# Altium schematic symbol library CPLD_Altera.SchLib: 26 symbols (part 1 of 2)
Pins are listed as number, name and electrical type; pins without a type are passive.

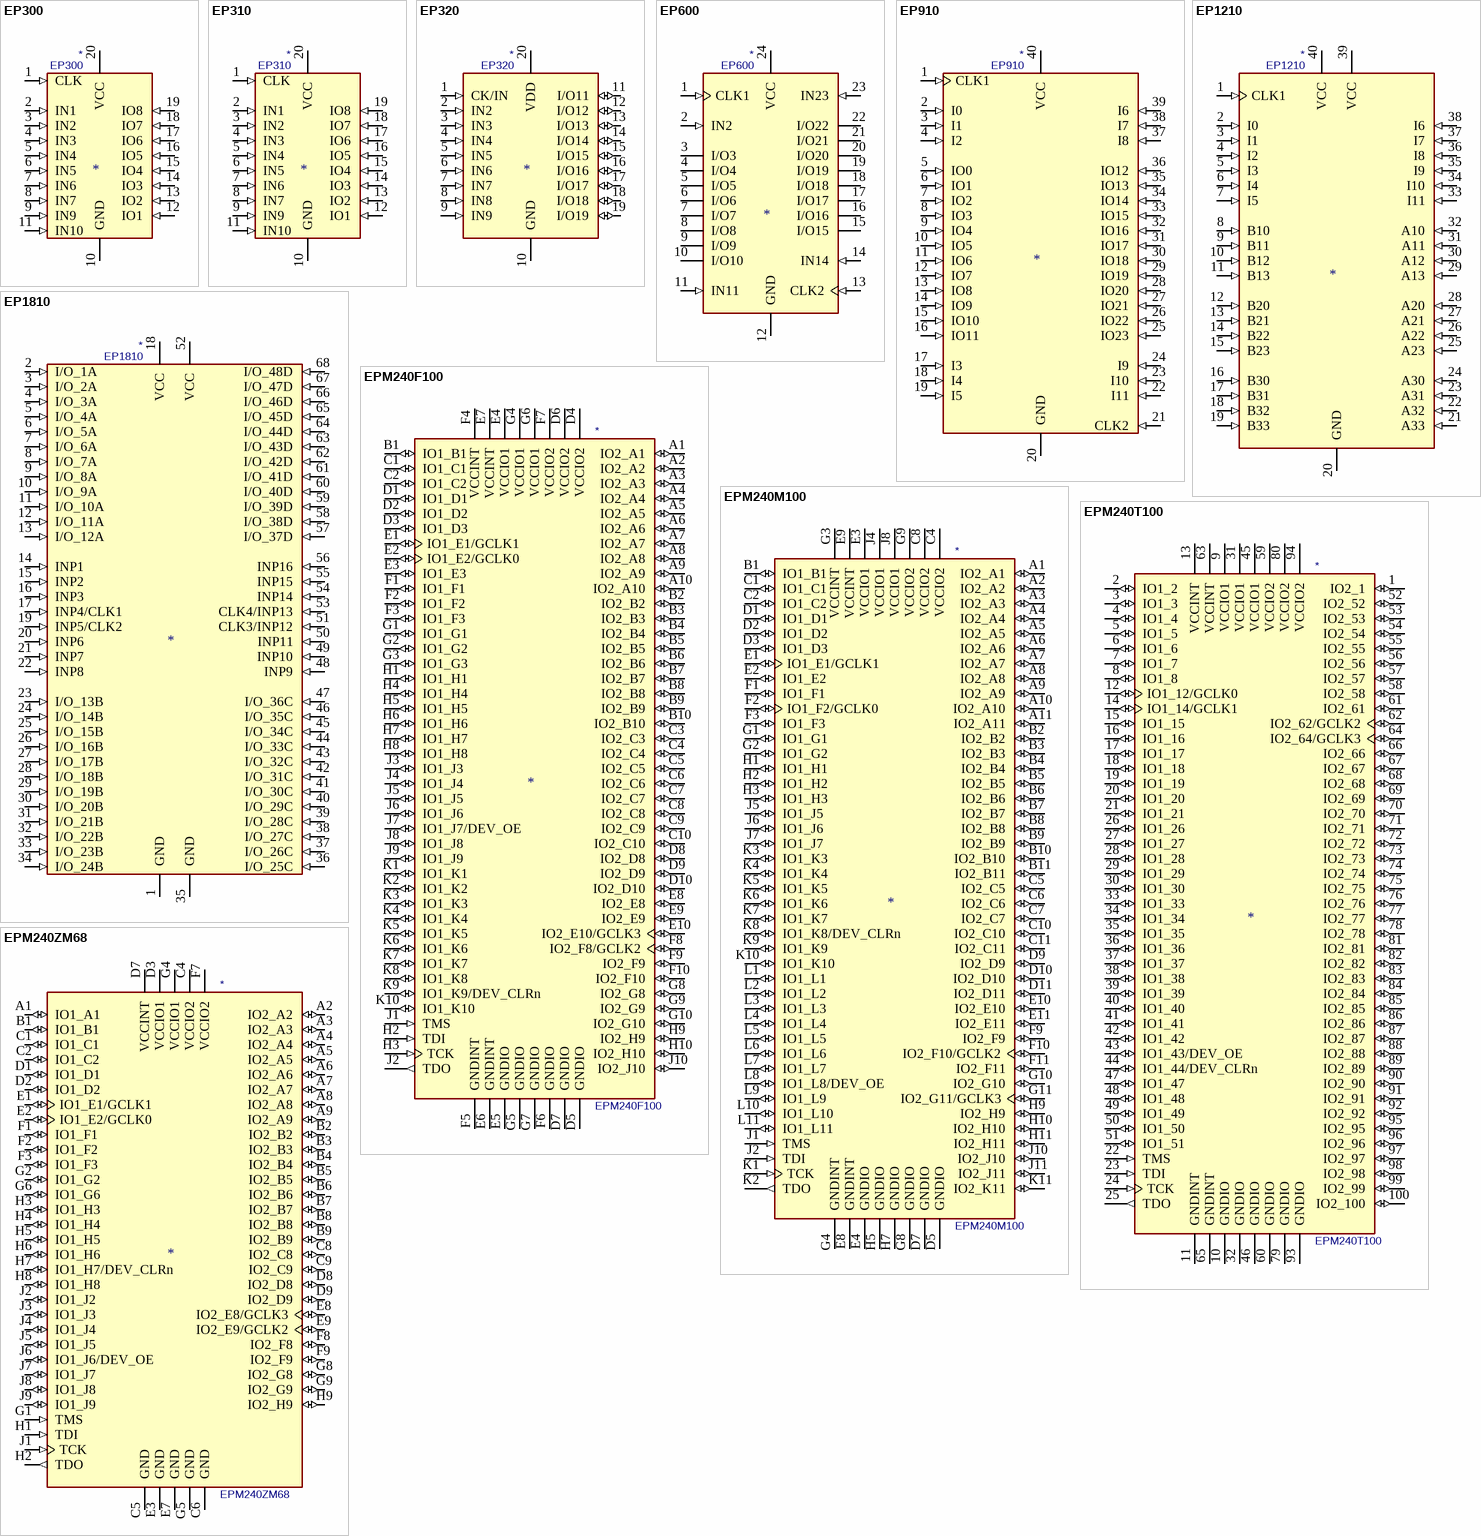
[diagram p0: symbols EP300 to EPM240ZM68]

## EP300
designator *  value EP300
ki_keywords: EPLD; ki_description: EPLD, DIP-20; ki_fp_filters: DIP*W7.62mm*; Footprint: Package_DIP:DIP-20_W7.62mm; Supplier: ~
footprint DIP-20_W7.62mm
pins: 1 CLK (in), 2 IN1 (in), 3 IN2 (in), 4 IN3 (in), 5 IN4 (in), 6 IN5 (in), 7 IN6 (in), 8 IN7 (in), 9 IN9 (in), 10 GND (power), 11 IN10 (in), 12 IO1 (in), 13 IO2 (in), 14 IO3 (in), 15 IO4 (in), 16 IO5 (in), 17 IO6 (in), 18 IO7 (in), 19 IO8 (in), 20 VCC (power)

## EP310
designator *  value EP310
ki_keywords: EPLD; ki_description: EPLD, 8 Macrocell, DIP-20; ki_fp_filters: DIP*W7.62mm*; Footprint: Package_DIP:DIP-20_W7.62mm; Supplier: https://www.usbid.com/assets/datasheets/A6/ep310%20-%20epld%20-%20altera.pdf
footprint DIP-20_W7.62mm
pins: 1 CLK (in), 2 IN1 (in), 3 IN2 (in), 4 IN3 (in), 5 IN4 (in), 6 IN5 (in), 7 IN6 (in), 8 IN7 (in), 9 IN9 (in), 10 GND (power), 11 IN10 (in), 12 IO1 (in), 13 IO2 (in), 14 IO3 (in), 15 IO4 (in), 16 IO5 (in), 17 IO6 (in), 18 IO7 (in), 19 IO8 (in), 20 VCC (power)

## EP320
designator *  value EP320
ki_keywords: EPLD; Supplier: ~; ki_description: EPLD
pins: 1 CK/IN (in), 2 IN2 (in), 3 IN3 (in), 4 IN4 (in), 5 IN5 (in), 6 IN6 (in), 7 IN7 (in), 8 IN8 (in), 9 IN9 (in), 10 GND (power), 11 I/O11 (io), 12 I/O12 (io), 13 I/O13 (io), 14 I/O14 (io), 15 I/O15 (io), 16 I/O16 (io), 17 I/O17 (io), 18 I/O18 (io), 19 I/O19 (io), 20 VDD (power)

## EP600
designator *  value EP600
ki_keywords: EPLD; Supplier: ~; ki_description: EPLD
pins: 1 CLK1 (in), 2 IN2 (in), 3 I/O3, 4 I/O4, 5 I/O5, 6 I/O6, 7 I/O7, 8 I/O8, 9 I/O9, 10 I/O10, 11 IN11 (in), 12 GND (power), 13 CLK2 (in), 14 IN14 (in), 15 I/O15, 16 I/O16, 17 I/O17, 18 I/O18, 19 I/O19, 20 I/O20, 21 I/O21, 22 I/O22, 23 IN23 (in), 24 VCC (power)

## EP910
designator *  value EP910
ki_keywords: EPLD; Supplier: ~; ki_description: EPLD
pins: 1 CLK1 (in), 2 I0 (in), 3 I1 (in), 4 I2 (in), 5 IO0 (in), 6 IO1 (in), 7 IO2 (in), 8 IO3 (in), 9 IO4 (in), 10 IO5 (in), 11 IO6 (in), 12 IO7 (in), 13 IO8 (in), 14 IO9 (in), 15 IO10 (in), 16 IO11 (in), 17 I3 (in), 18 I4 (in), 19 I5 (in), 20 GND (power), 21 CLK2 (in), 22 I11 (in), 23 I10 (in), 24 I9 (in), 25 IO23 (in), 26 IO22 (in), 27 IO21 (in), 28 IO20 (in), 29 IO19 (in), 30 IO18 (in), 31 IO17 (in), 32 IO16 (in), 33 IO15 (in), 34 IO14 (in), 35 IO13 (in), 36 IO12 (in), 37 I8 (in), 38 I7 (in), 39 I6 (in), 40 VCC (power)

## EP1210
designator *  value EP1210
ki_keywords: EPLD; Supplier: ~; ki_description: EPLD
pins: 1 CLK1 (in), 2 I0 (in), 3 I1 (in), 4 I2 (in), 5 I3 (in), 6 I4 (in), 7 I5 (in), 8 B10 (in), 9 B11 (in), 10 B12 (in), 11 B13 (in), 12 B20 (in), 13 B21 (in), 14 B22 (in), 15 B23 (in), 16 B30 (in), 17 B31 (in), 18 B32 (in), 19 B33 (in), 20 GND (power), 21 A33 (in), 22 A32 (in), 23 A31 (in), 24 A30 (in), 25 A23 (in), 26 A22 (in), 27 A21 (in), 28 A20 (in), 29 A13 (in), 30 A12 (in), 31 A11 (in), 32 A10 (in), 33 I11 (in), 34 I10 (in), 35 I9 (in), 36 I8 (in), 37 I7 (in), 38 I6 (in), 39 VCC (power), 40 VCC (power)

## EP1810
designator *  value EP1810
ki_keywords: EPLD; Supplier: ~; ki_description: EPLD
pins: 1 GND (power), 2 I/O_1A (in), 3 I/O_2A (in), 4 I/O_3A (in), 5 I/O_4A (in), 6 I/O_5A (in), 7 I/O_6A (in), 8 I/O_7A (in), 9 I/O_8A (in), 10 I/O_9A (in), 11 I/O_10A (in), 12 I/O_11A (in), 13 I/O_12A (in), 14 INP1 (in), 15 INP2 (in), 16 INP3 (in), 17 INP4/CLK1 (in), 18 VCC (power), 19 INP5/CLK2 (in), 20 INP6 (in), 21 INP7 (in), 22 INP8 (in), 23 I/O_13B (in), 24 I/O_14B (in), 25 I/O_15B (in), 26 I/O_16B (in), 27 I/O_17B (in), 28 I/O_18B (in), 29 I/O_19B (in), 30 I/O_20B (in), 31 I/O_21B (in), 32 I/O_22B (in), 33 I/O_23B (in), 34 I/O_24B (in), 35 GND (power), 36 I/O_25C (in), 37 I/O_26C (in), 38 I/O_27C (in), 39 I/O_28C (in), 40 I/O_29C (in), 41 I/O_30C (in), 42 I/O_31C (in), 43 I/O_32C (in), 44 I/O_33C (in), 45 I/O_34C (in), 46 I/O_35C (in), 47 I/O_36C (in), 48 INP9 (in), 49 INP10 (in), 50 INP11 (in), 51 CLK3/INP12 (in), 52 VCC (power), 53 CLK4/INP13 (in), 54 INP14 (in), 55 INP15 (in), 56 INP16 (in), 57 I/O_37D (in), 58 I/O_38D (in), 59 I/O_39D (in), 60 I/O_40D (in), 61 I/O_41D (in), 62 I/O_42D (in), 63 I/O_43D (in), 64 I/O_44D (in), 65 I/O_45D (in), 66 I/O_46D (in), 67 I/O_47D (in), 68 I/O_48D (in)

## EPM240F100
designator *  value EPM240F100
ki_keywords: MAX2 FBGA; ki_description: Altera MAX2 CPLD with 240 LE; ki_fp_filters: *BGA*P1.0mm*; Footprint: Package_BGA:BGA-100_11.0x11.0mm_Layout10x10_P1.0mm_Ball0.5mm_Pad0.4mm_NSMD; Supplier: https://www.altera.com/content/dam/altera-www/global/en_US/pdfs/literature/hb/max2/max2_mii5v1.pdf
footprint BGA-100_11.0x11.0mm_Layout10x10_P1.0mm_Ball0.5mm_Pad0.4mm_NSMD
pins: A1 IO2_A1 (io), A2 IO2_A2 (io), A3 IO2_A3 (io), A4 IO2_A4 (io), A5 IO2_A5 (io), A6 IO2_A6 (io), A7 IO2_A7 (io), A8 IO2_A8 (io), A9 IO2_A9 (io), A10 IO2_A10 (io), B1 IO1_B1 (io), B2 IO2_B2 (io), B3 IO2_B3 (io), B4 IO2_B4 (io), B5 IO2_B5 (io), B6 IO2_B6 (io), B7 IO2_B7 (io), B8 IO2_B8 (io), B9 IO2_B9 (io), B10 IO2_B10 (io), C1 IO1_C1 (io), C2 IO1_C2 (io), C3 IO2_C3 (io), C4 IO2_C4 (io), C5 IO2_C5 (io), C6 IO2_C6 (io), C7 IO2_C7 (io), C8 IO2_C8 (io), C9 IO2_C9 (io), C10 IO2_C10 (io), D1 IO1_D1 (io), D2 IO1_D2 (io), D3 IO1_D3 (io), D4 VCCIO2 (power), D5 GNDIO (power), D6 VCCIO2 (power), D7 GNDIO (power), D8 IO2_D8 (io), D9 IO2_D9 (io), D10 IO2_D10 (io), E1 IO1_E1/GCLK1 (io), E2 IO1_E2/GCLK0 (io), E3 IO1_E3 (io), E4 VCCIO1 (power), E5 GNDIO (power), E6 GNDINT (power), E7 VCCINT (power), E8 IO2_E8 (io), E9 IO2_E9 (io), E10 IO2_E10/GCLK3 (io), F1 IO1_F1 (io), F2 IO1_F2 (io), F3 IO1_F3 (io), F4 VCCINT (power), F5 GNDINT (power), F6 GNDIO (power), F7 VCCIO2 (power), F8 IO2_F8/GCLK2 (io), F9 IO2_F9 (io), F10 IO2_F10 (io), G1 IO1_G1 (io), G2 IO1_G2 (io), G3 IO1_G3 (io), G4 VCCIO1 (power), G5 GNDIO (power), G6 VCCIO1 (power), G7 GNDIO (power), G8 IO2_G8 (io), G9 IO2_G9 (io), G10 IO2_G10 (io), H1 IO1_H1 (io), H2 TDI (in), H3 TCK (in), H4 IO1_H4 (io), H5 IO1_H5 (io), H6 IO1_H6 (io), H7 IO1_H7 (io), H8 IO1_H8 (io), H9 IO2_H9 (io), H10 IO2_H10 (io), J1 TMS (in), J2 TDO (out), J3 IO1_J3 (io), J4 IO1_J4 (io), J5 IO1_J5 (io), J6 IO1_J6 (io), J7 IO1_J7/DEV_OE (io), J8 IO1_J8 (io), J9 IO1_J9 (io), J10 IO2_J10 (io), K1 IO1_K1 (io), K2 IO1_K2 (io), K3 IO1_K3 (io), K4 IO1_K4 (io), K5 IO1_K5 (io), K6 IO1_K6 (io), K7 IO1_K7 (io), K8 IO1_K8 (io), K9 IO1_K9/DEV_CLRn (io), K10 IO1_K10 (io)

## EPM240M100
designator *  value EPM240M100
ki_keywords: MAX2 MBGA; ki_description: Altera MAX2 CPLD with 240 LE; ki_fp_filters: *BGA*P0.5mm*; Footprint: Package_BGA:BGA-100_6.0x6.0mm_Layout11x11_P0.5mm_Ball0.3mm_Pad0.25mm_NSMD; Supplier: https://www.altera.com/content/dam/altera-www/global/en_US/pdfs/literature/hb/max2/max2_mii5v1.pdf
footprint BGA-100_6.0x6.0mm_Layout11x11_P0.5mm_Ball0.3mm_Pad0.25mm_NSMD
pins: A1 IO2_A1 (io), A2 IO2_A2 (io), A3 IO2_A3 (io), A4 IO2_A4 (io), A5 IO2_A5 (io), A6 IO2_A6 (io), A7 IO2_A7 (io), A8 IO2_A8 (io), A9 IO2_A9 (io), A10 IO2_A10 (io), A11 IO2_A11 (io), B1 IO1_B1 (io), B2 IO2_B2 (io), B3 IO2_B3 (io), B4 IO2_B4 (io), B5 IO2_B5 (io), B6 IO2_B6 (io), B7 IO2_B7 (io), B8 IO2_B8 (io), B9 IO2_B9 (io), B10 IO2_B10 (io), B11 IO2_B11 (io), C1 IO1_C1 (io), C2 IO1_C2 (io), C4 VCCIO2 (power), C5 IO2_C5 (io), C6 IO2_C6 (io), C7 IO2_C7 (io), C8 VCCIO2 (power), C10 IO2_C10 (io), C11 IO2_C11 (io), D1 IO1_D1 (io), D2 IO1_D2 (io), D3 IO1_D3 (io), D5 GNDIO (power), D7 GNDIO (power), D9 IO2_D9 (io), D10 IO2_D10 (io), D11 IO2_D11 (io), E1 IO1_E1/GCLK1 (io), E2 IO1_E2 (io), E3 VCCIO1 (power), E4 GNDIO (power), E8 GNDINT (power), E9 VCCINT (power), E10 IO2_E10 (io), E11 IO2_E11 (io), F1 IO1_F1 (io), F2 IO1_F2/GCLK0 (io), F3 IO1_F3 (io), F9 IO2_F9 (io), F10 IO2_F10/GCLK2 (io), F11 IO2_F11 (io), G1 IO1_G1 (io), G2 IO1_G2 (io), G3 VCCINT (power), G4 GNDINT (power), G8 GNDIO (power), G9 VCCIO2 (power), G10 IO2_G10 (io), G11 IO2_G11/GCLK3 (io), H1 IO1_H1 (io), H2 IO1_H2 (io), H3 IO1_H3 (io), H5 GNDIO (power), H7 GNDIO (power), H9 IO2_H9 (io), H10 IO2_H10 (io), H11 IO2_H11 (io), J1 TMS (in), J2 TDI (in), J4 VCCIO1 (power), J5 IO1_J5 (io), J6 IO1_J6 (io), J7 IO1_J7 (io), J8 VCCIO1 (power), J10 IO2_J10 (io), J11 IO2_J11 (io), K1 TCK (in), K2 TDO (out), K3 IO1_K3 (io), K4 IO1_K4 (io), K5 IO1_K5 (io), K6 IO1_K6 (io), K7 IO1_K7 (io), K8 IO1_K8/DEV_CLRn (io), K9 IO1_K9 (io), K10 IO1_K10 (io), K11 IO2_K11 (io), L1 IO1_L1 (io), L2 IO1_L2 (io), L3 IO1_L3 (io), L4 IO1_L4 (io), L5 IO1_L5 (io), L6 IO1_L6 (io), L7 IO1_L7 (io), L8 IO1_L8/DEV_OE (io), L9 IO1_L9 (io), L10 IO1_L10 (io), L11 IO1_L11 (io)

## EPM240T100
designator *  value EPM240T100
ki_keywords: MAX2 TQFP; ki_description: Altera MAX2 CPLD with 240 LE; ki_fp_filters: *QFP*P0.5mm*; Footprint: Package_QFP:LQFP-100_14x14mm_P0.5mm; Supplier: https://www.altera.com/content/dam/altera-www/global/en_US/pdfs/literature/hb/max2/max2_mii5v1.pdf
footprint LQFP-100_14x14mm_P0.5mm
pins: 1 IO2_1 (io), 2 IO1_2 (io), 3 IO1_3 (io), 4 IO1_4 (io), 5 IO1_5 (io), 6 IO1_6 (io), 7 IO1_7 (io), 8 IO1_8 (io), 9 VCCIO1 (power), 10 GNDIO (power), 11 GNDINT (power), 12 IO1_12/GCLK0 (io), 13 VCCINT (power), 14 IO1_14/GCLK1 (io), 15 IO1_15 (io), 16 IO1_16 (io), 17 IO1_17 (io), 18 IO1_18 (io), 19 IO1_19 (io), 20 IO1_20 (io), 21 IO1_21 (io), 22 TMS (in), 23 TDI (in), 24 TCK (in), 25 TDO (out), 26 IO1_26 (io), 27 IO1_27 (io), 28 IO1_28 (io), 29 IO1_29 (io), 30 IO1_30 (io), 31 VCCIO1 (power), 32 GNDIO (power), 33 IO1_33 (io), 34 IO1_34 (io), 35 IO1_35 (io), 36 IO1_36 (io), 37 IO1_37 (io), 38 IO1_38 (io), 39 IO1_39 (io), 40 IO1_40 (io), 41 IO1_41 (io), 42 IO1_42 (io), 43 IO1_43/DEV_OE (io), 44 IO1_44/DEV_CLRn (io), 45 VCCIO1 (power), 46 GNDIO (power), 47 IO1_47 (io), 48 IO1_48 (io), 49 IO1_49 (io), 50 IO1_50 (io), 51 IO1_51 (io), 52 IO2_52 (io), 53 IO2_53 (io), 54 IO2_54 (io), 55 IO2_55 (io), 56 IO2_56 (io), 57 IO2_57 (io), 58 IO2_58 (io), 59 VCCIO2 (power), 60 GNDIO (power), 61 IO2_61 (io), 62 IO2_62/GCLK2 (io), 63 VCCINT (power), 64 IO2_64/GCLK3 (io), 65 GNDINT (power), 66 IO2_66 (io), 67 IO2_67 (io), 68 IO2_68 (io), 69 IO2_69 (io), 70 IO2_70 (io), 71 IO2_71 (io), 72 IO2_72 (io), 73 IO2_73 (io), 74 IO2_74 (io), 75 IO2_75 (io), 76 IO2_76 (io), 77 IO2_77 (io), 78 IO2_78 (io), 79 GNDIO (power), 80 VCCIO2 (power), 81 IO2_81 (io), 82 IO2_82 (io), 83 IO2_83 (io), 84 IO2_84 (io), 85 IO2_85 (io), 86 IO2_86 (io), 87 IO2_87 (io), 88 IO2_88 (io), 89 IO2_89 (io), 90 IO2_90 (io), 91 IO2_91 (io), 92 IO2_92 (io), 93 GNDIO (power), 94 VCCIO2 (power), 95 IO2_95 (io), 96 IO2_96 (io), 97 IO2_97 (io), 98 IO2_98 (io), 99 IO2_99 (io), 100 IO2_100 (io)

## EPM240ZM68
designator *  value EPM240ZM68
ki_keywords: MAX2 MBGA; ki_description: Altera Zero-Power MAX2 CPLD with 240 LE; ki_fp_filters: *BGA*P0.5mm*; Footprint: Package_BGA:BGA-68_5.0x5.0mm_Layout9x9_P0.5mm_Ball0.3mm_Pad0.25mm_NSMD; Supplier: https://www.altera.com/content/dam/altera-www/global/en_US/pdfs/literature/hb/max2/max2_mii5v1.pdf
footprint BGA-68_5.0x5.0mm_Layout9x9_P0.5mm_Ball0.3mm_Pad0.25mm_NSMD
pins: A1 IO1_A1 (io), A2 IO2_A2 (io), A3 IO2_A3 (io), A4 IO2_A4 (io), A5 IO2_A5 (io), A6 IO2_A6 (io), A7 IO2_A7 (io), A8 IO2_A8 (io), A9 IO2_A9 (io), B1 IO1_B1 (io), B2 IO2_B2 (io), B3 IO2_B3 (io), B4 IO2_B4 (io), B5 IO2_B5 (io), B6 IO2_B6 (io), B7 IO2_B7 (io), B8 IO2_B8 (io), B9 IO2_B9 (io), C1 IO1_C1 (io), C2 IO1_C2 (io), C4 VCCIO2 (power), C5 GND (power), C6 GND (power), C8 IO2_C8 (io), C9 IO2_C9 (io), D1 IO1_D1 (io), D2 IO1_D2 (io), D3 VCCIO1 (power), D7 VCCINT (power), D8 IO2_D8 (io), D9 IO2_D9 (io), E1 IO1_E1/GCLK1 (io), E2 IO1_E2/GCLK0 (io), E3 GND (power), E7 GND (power), E8 IO2_E8/GCLK3 (io), E9 IO2_E9/GCLK2 (io), F1 IO1_F1 (io), F2 IO1_F2 (io), F3 IO1_F3 (io), F7 VCCIO2 (power), F8 IO2_F8 (io), F9 IO2_F9 (io), G1 TMS (in), G2 IO1_G2 (io), G4 VCCIO1 (power), G5 GND (power), G6 IO1_G6 (io), G8 IO2_G8 (io), G9 IO2_G9 (io), H1 TDI (in), H2 TDO (out), H3 IO1_H3 (io), H4 IO1_H4 (io), H5 IO1_H5 (io), H6 IO1_H6 (io), H7 IO1_H7/DEV_CLRn (io), H8 IO1_H8 (io), H9 IO2_H9 (io), J1 TCK (in), J2 IO1_J2 (io), J3 IO1_J3 (io), J4 IO1_J4 (io), J5 IO1_J5 (io), J6 IO1_J6/DEV_OE (io), J7 IO1_J7 (io), J8 IO1_J8 (io), J9 IO1_J9 (io)

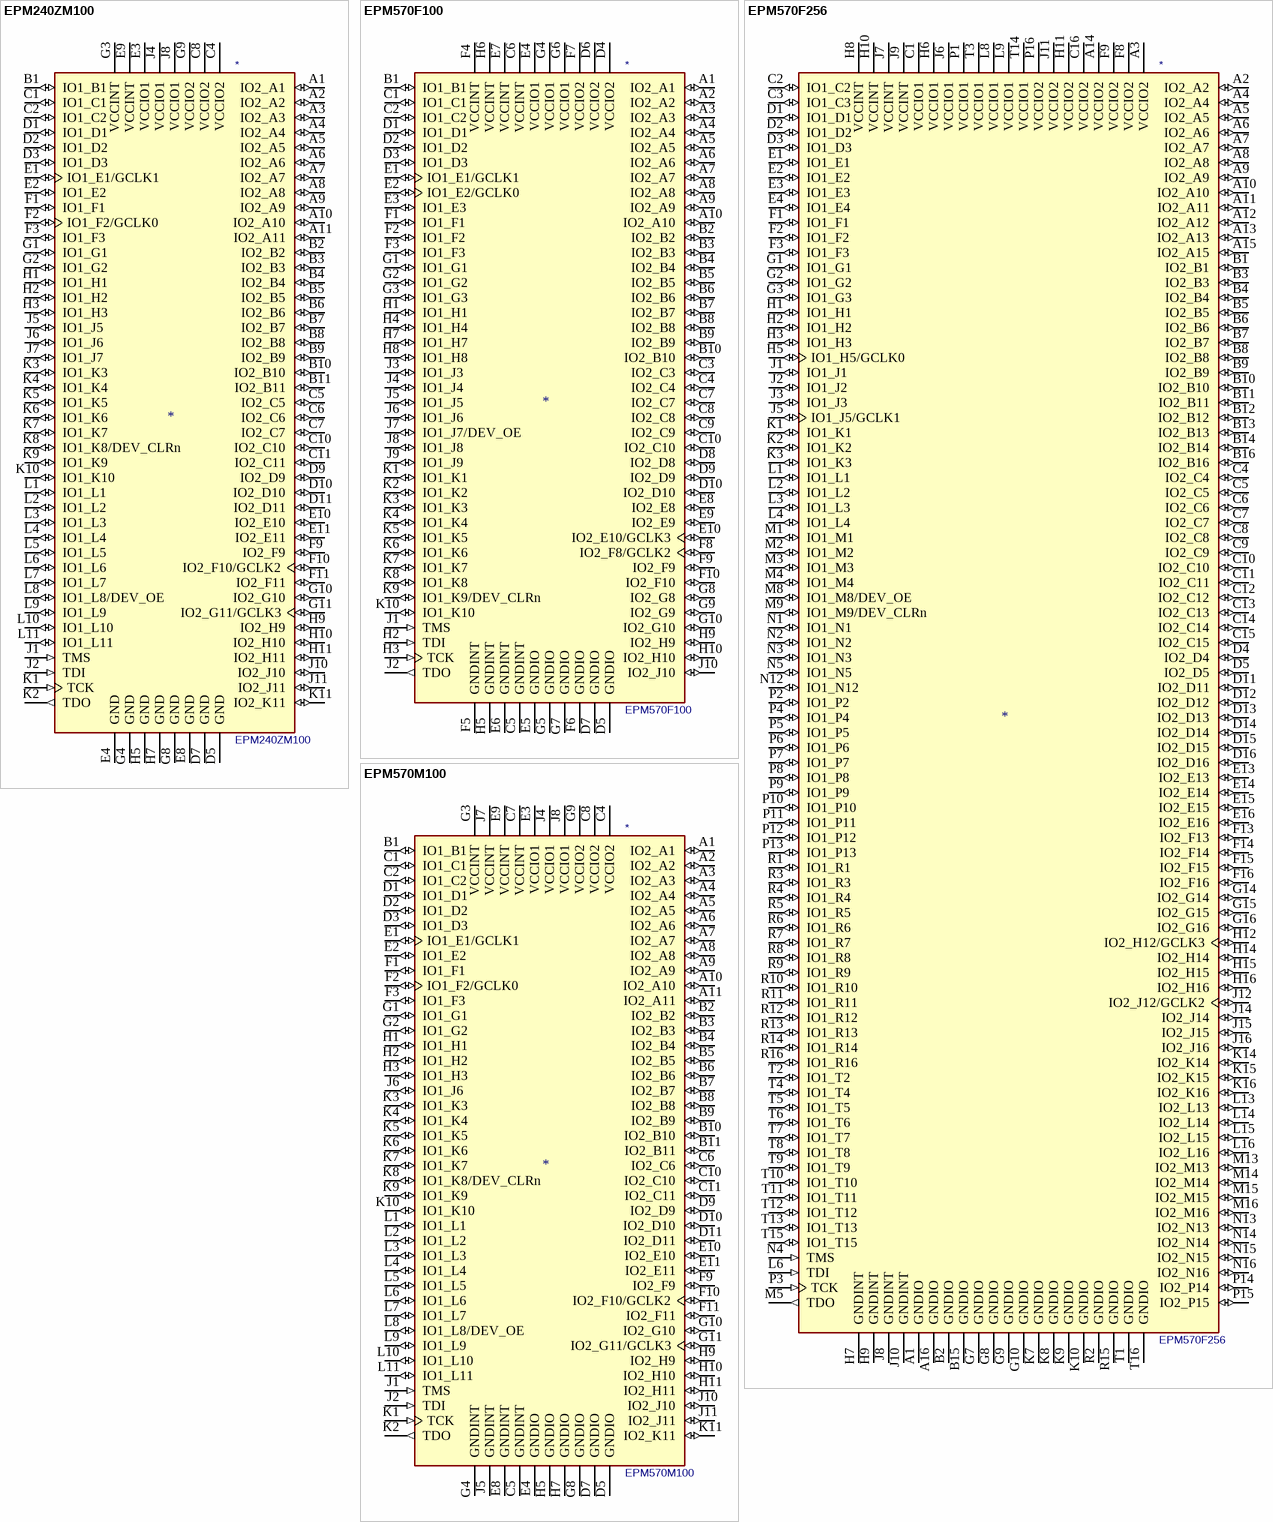
[diagram p1: symbols EPM240ZM100 to EPM570M100]

## EPM240ZM100
designator *  value EPM240ZM100
ki_keywords: MAX2 MBGA; ki_description: Altera Zero-Power MAX2 CPLD with 240 LE; ki_fp_filters: *BGA*P0.5mm*; Footprint: Package_BGA:BGA-100_6.0x6.0mm_Layout11x11_P0.5mm_Ball0.3mm_Pad0.25mm_NSMD; Supplier: https://www.altera.com/content/dam/altera-www/global/en_US/pdfs/literature/hb/max2/max2_mii5v1.pdf
footprint BGA-100_6.0x6.0mm_Layout11x11_P0.5mm_Ball0.3mm_Pad0.25mm_NSMD
pins: A1 IO2_A1 (io), A2 IO2_A2 (io), A3 IO2_A3 (io), A4 IO2_A4 (io), A5 IO2_A5 (io), A6 IO2_A6 (io), A7 IO2_A7 (io), A8 IO2_A8 (io), A9 IO2_A9 (io), A10 IO2_A10 (io), A11 IO2_A11 (io), B1 IO1_B1 (io), B2 IO2_B2 (io), B3 IO2_B3 (io), B4 IO2_B4 (io), B5 IO2_B5 (io), B6 IO2_B6 (io), B7 IO2_B7 (io), B8 IO2_B8 (io), B9 IO2_B9 (io), B10 IO2_B10 (io), B11 IO2_B11 (io), C1 IO1_C1 (io), C2 IO1_C2 (io), C4 VCCIO2 (power), C5 IO2_C5 (io), C6 IO2_C6 (io), C7 IO2_C7 (io), C8 VCCIO2 (power), C10 IO2_C10 (io), C11 IO2_C11 (io), D1 IO1_D1 (io), D2 IO1_D2 (io), D3 IO1_D3 (io), D5 GND (power), D7 GND (power), D9 IO2_D9 (io), D10 IO2_D10 (io), D11 IO2_D11 (io), E1 IO1_E1/GCLK1 (io), E2 IO1_E2 (io), E3 VCCIO1 (power), E4 GND (power), E8 GND (power), E9 VCCINT (power), E10 IO2_E10 (io), E11 IO2_E11 (io), F1 IO1_F1 (io), F2 IO1_F2/GCLK0 (io), F3 IO1_F3 (io), F9 IO2_F9 (io), F10 IO2_F10/GCLK2 (io), F11 IO2_F11 (io), G1 IO1_G1 (io), G2 IO1_G2 (io), G3 VCCINT (power), G4 GND (power), G8 GND (power), G9 VCCIO2 (power), G10 IO2_G10 (io), G11 IO2_G11/GCLK3 (io), H1 IO1_H1 (io), H2 IO1_H2 (io), H3 IO1_H3 (io), H5 GND (power), H7 GND (power), H9 IO2_H9 (io), H10 IO2_H10 (io), H11 IO2_H11 (io), J1 TMS (in), J2 TDI (in), J4 VCCIO1 (power), J5 IO1_J5 (io), J6 IO1_J6 (io), J7 IO1_J7 (io), J8 VCCIO1 (power), J10 IO2_J10 (io), J11 IO2_J11 (io), K1 TCK (in), K2 TDO (out), K3 IO1_K3 (io), K4 IO1_K4 (io), K5 IO1_K5 (io), K6 IO1_K6 (io), K7 IO1_K7 (io), K8 IO1_K8/DEV_CLRn (io), K9 IO1_K9 (io), K10 IO1_K10 (io), K11 IO2_K11 (io), L1 IO1_L1 (io), L2 IO1_L2 (io), L3 IO1_L3 (io), L4 IO1_L4 (io), L5 IO1_L5 (io), L6 IO1_L6 (io), L7 IO1_L7 (io), L8 IO1_L8/DEV_OE (io), L9 IO1_L9 (io), L10 IO1_L10 (io), L11 IO1_L11 (io)

## EPM570F100
designator *  value EPM570F100
ki_keywords: MAX2 FBGA; ki_description: Altera MAX2 CPLD with 570 LE; ki_fp_filters: *BGA*P1.0mm*; Footprint: Package_BGA:BGA-100_11.0x11.0mm_Layout10x10_P1.0mm_Ball0.5mm_Pad0.4mm_NSMD; Supplier: https://www.altera.com/content/dam/altera-www/global/en_US/pdfs/literature/hb/max2/max2_mii5v1.pdf
footprint BGA-100_11.0x11.0mm_Layout10x10_P1.0mm_Ball0.5mm_Pad0.4mm_NSMD
pins: A1 IO2_A1 (io), A2 IO2_A2 (io), A3 IO2_A3 (io), A4 IO2_A4 (io), A5 IO2_A5 (io), A6 IO2_A6 (io), A7 IO2_A7 (io), A8 IO2_A8 (io), A9 IO2_A9 (io), A10 IO2_A10 (io), B1 IO1_B1 (io), B2 IO2_B2 (io), B3 IO2_B3 (io), B4 IO2_B4 (io), B5 IO2_B5 (io), B6 IO2_B6 (io), B7 IO2_B7 (io), B8 IO2_B8 (io), B9 IO2_B9 (io), B10 IO2_B10 (io), C1 IO1_C1 (io), C2 IO1_C2 (io), C3 IO2_C3 (io), C4 IO2_C4 (io), C5 GNDINT (power), C6 VCCINT (power), C7 IO2_C7 (io), C8 IO2_C8 (io), C9 IO2_C9 (io), C10 IO2_C10 (io), D1 IO1_D1 (io), D2 IO1_D2 (io), D3 IO1_D3 (io), D4 VCCIO2 (power), D5 GNDIO (power), D6 VCCIO2 (power), D7 GNDIO (power), D8 IO2_D8 (io), D9 IO2_D9 (io), D10 IO2_D10 (io), E1 IO1_E1/GCLK1 (io), E2 IO1_E2/GCLK0 (io), E3 IO1_E3 (io), E4 VCCIO1 (power), E5 GNDIO (power), E6 GNDINT (power), E7 VCCINT (power), E8 IO2_E8 (io), E9 IO2_E9 (io), E10 IO2_E10/GCLK3 (io), F1 IO1_F1 (io), F2 IO1_F2 (io), F3 IO1_F3 (io), F4 VCCINT (power), F5 GNDINT (power), F6 GNDIO (power), F7 VCCIO2 (power), F8 IO2_F8/GCLK2 (io), F9 IO2_F9 (io), F10 IO2_F10 (io), G1 IO1_G1 (io), G2 IO1_G2 (io), G3 IO1_G3 (io), G4 VCCIO1 (power), G5 GNDIO (power), G6 VCCIO1 (power), G7 GNDIO (power), G8 IO2_G8 (io), G9 IO2_G9 (io), G10 IO2_G10 (io), H1 IO1_H1 (io), H2 TDI (in), H3 TCK (in), H4 IO1_H4 (io), H5 GNDINT (power), H6 VCCINT (power), H7 IO1_H7 (io), H8 IO1_H8 (io), H9 IO2_H9 (io), H10 IO2_H10 (io), J1 TMS (in), J2 TDO (out), J3 IO1_J3 (io), J4 IO1_J4 (io), J5 IO1_J5 (io), J6 IO1_J6 (io), J7 IO1_J7/DEV_OE (io), J8 IO1_J8 (io), J9 IO1_J9 (io), J10 IO2_J10 (io), K1 IO1_K1 (io), K2 IO1_K2 (io), K3 IO1_K3 (io), K4 IO1_K4 (io), K5 IO1_K5 (io), K6 IO1_K6 (io), K7 IO1_K7 (io), K8 IO1_K8 (io), K9 IO1_K9/DEV_CLRn (io), K10 IO1_K10 (io)

## EPM570F256
designator *  value EPM570F256
ki_keywords: MAX2 FBGA; ki_description: Altera MAX2 CPLD with 570 LE; ki_fp_filters: *BGA*P1.0mm*; Footprint: Package_BGA:BGA-256_17.0x17.0mm_Layout16x16_P1.0mm_Ball0.5mm_Pad0.4mm_NSMD; Supplier: https://www.altera.com/content/dam/altera-www/global/en_US/pdfs/literature/hb/max2/max2_mii5v1.pdf
footprint BGA-256_17.0x17.0mm_Layout16x16_P1.0mm_Ball0.5mm_Pad0.4mm_NSMD
pins: A1 GNDIO (power), A2 IO2_A2 (io), A3 VCCIO2 (power), A4 IO2_A4 (io), A5 IO2_A5 (io), A6 IO2_A6 (io), A7 IO2_A7 (io), A8 IO2_A8 (io), A9 IO2_A9 (io), A10 IO2_A10 (io), A11 IO2_A11 (io), A12 IO2_A12 (io), A13 IO2_A13 (io), A14 VCCIO2 (power), A15 IO2_A15 (io), A16 GNDIO (power), B1 IO2_B1 (io), B2 GNDIO (power), B3 IO2_B3 (io), B4 IO2_B4 (io), B5 IO2_B5 (io), B6 IO2_B6 (io), B7 IO2_B7 (io), B8 IO2_B8 (io), B9 IO2_B9 (io), B10 IO2_B10 (io), B11 IO2_B11 (io), B12 IO2_B12 (io), B13 IO2_B13 (io), B14 IO2_B14 (io), B15 GNDIO (power), B16 IO2_B16 (io), C1 VCCIO1 (power), C2 IO1_C2 (io), C3 IO1_C3 (io), C4 IO2_C4 (io), C5 IO2_C5 (io), C6 IO2_C6 (io), C7 IO2_C7 (io), C8 IO2_C8 (io), C9 IO2_C9 (io), C10 IO2_C10 (io), C11 IO2_C11 (io), C12 IO2_C12 (io), C13 IO2_C13 (io), C14 IO2_C14 (io), C15 IO2_C15 (io), C16 VCCIO2 (power), D1 IO1_D1 (io), D2 IO1_D2 (io), D3 IO1_D3 (io), D4 IO2_D4 (io), D5 IO2_D5 (io), D11 IO2_D11 (io), D12 IO2_D12 (io), D13 IO2_D13 (io), D14 IO2_D14 (io), D15 IO2_D15 (io), D16 IO2_D16 (io), E1 IO1_E1 (io), E2 IO1_E2 (io), E3 IO1_E3 (io), E4 IO1_E4 (io), E13 IO2_E13 (io), E14 IO2_E14 (io), E15 IO2_E15 (io), E16 IO2_E16 (io), F1 IO1_F1 (io), F2 IO1_F2 (io), F3 IO1_F3 (io), F8 VCCIO2 (power), F9 VCCIO2 (power), F13 IO2_F13 (io), F14 IO2_F14 (io), F15 IO2_F15 (io), F16 IO2_F16 (io), G1 IO1_G1 (io), G2 IO1_G2 (io), G3 IO1_G3 (io), G7 GNDIO (power), G8 GNDIO (power), G9 GNDIO (power), G10 GNDIO (power), G14 IO2_G14 (io), G15 IO2_G15 (io), G16 IO2_G16 (io), H1 IO1_H1 (io), H2 IO1_H2 (io), H3 IO1_H3 (io), H5 IO1_H5/GCLK0 (io), H6 VCCIO1 (power), H7 GNDINT (power), H8 VCCINT (power), H9 GNDINT (power), H10 VCCINT (power), H11 VCCIO2 (power), H12 IO2_H12/GCLK3 (io), H14 IO2_H14 (io), H15 IO2_H15 (io), H16 IO2_H16 (io), J1 IO1_J1 (io), J2 IO1_J2 (io), J3 IO1_J3 (io), J5 IO1_J5/GCLK1 (io), J6 VCCIO1 (power), J7 VCCINT (power), J8 GNDINT (power), J9 VCCINT (power), J10 GNDINT (power), J11 VCCIO2 (power), J12 IO2_J12/GCLK2 (io), J14 IO2_J14 (io), J15 IO2_J15 (io), J16 IO2_J16 (io), K1 IO1_K1 (io), K2 IO1_K2 (io), K3 IO1_K3 (io), K7 GNDIO (power), K8 GNDIO (power), K9 GNDIO (power), K10 GNDIO (power), K14 IO2_K14 (io), K15 IO2_K15 (io), K16 IO2_K16 (io), L1 IO1_L1 (io), L2 IO1_L2 (io), L3 IO1_L3 (io), L4 IO1_L4 (io), L6 TDI (in), L8 VCCIO1 (power), L9 VCCIO1 (power), L13 IO2_L13 (io), L14 IO2_L14 (io), L15 IO2_L15 (io), L16 IO2_L16 (io), M1 IO1_M1 (io), M2 IO1_M2 (io), M3 IO1_M3 (io), M4 IO1_M4 (io), M5 TDO (out), M8 IO1_M8/DEV_OE (io), M9 IO1_M9/DEV_CLRn (io), M13 IO2_M13 (io), M14 IO2_M14 (io), M15 IO2_M15 (io), M16 IO2_M16 (io), N1 IO1_N1 (io), N2 IO1_N2 (io), N3 IO1_N3 (io), N4 TMS (in), N5 IO1_N5 (io), N12 IO1_N12 (io), N13 IO2_N13 (io), N14 IO2_N14 (io), N15 IO2_N15 (io), N16 IO2_N16 (io), P1 VCCIO1 (power), P2 IO1_P2 (io), P3 TCK (in), P4 IO1_P4 (io), P5 IO1_P5 (io), P6 IO1_P6 (io), P7 IO1_P7 (io), P8 IO1_P8 (io), P9 IO1_P9 (io), P10 IO1_P10 (io), P11 IO1_P11 (io), P12 IO1_P12 (io), P13 IO1_P13 (io), P14 IO2_P14 (io), P15 IO2_P15 (io), P16 VCCIO2 (power), R1 IO1_R1 (io), R2 GNDIO (power), R3 IO1_R3 (io), R4 IO1_R4 (io), R5 IO1_R5 (io), R6 IO1_R6 (io), R7 IO1_R7 (io), R8 IO1_R8 (io), R9 IO1_R9 (io), R10 IO1_R10 (io), R11 IO1_R11 (io), R12 IO1_R12 (io), R13 IO1_R13 (io), R14 IO1_R14 (io), R15 GNDIO (power), R16 IO1_R16 (io), T1 GNDIO (power), T2 IO1_T2 (io), T3 VCCIO1 (power), T4 IO1_T4 (io), T5 IO1_T5 (io), T6 IO1_T6 (io), T7 IO1_T7 (io), T8 IO1_T8 (io), T9 IO1_T9 (io), T10 IO1_T10 (io), T11 IO1_T11 (io), T12 IO1_T12 (io), T13 IO1_T13 (io), T14 VCCIO1 (power), T15 IO1_T15 (io), T16 GNDIO (power)

## EPM570M100
designator *  value EPM570M100
ki_keywords: MAX2 MBGA; ki_description: Altera MAX2 CPLD with 570 LE; ki_fp_filters: *BGA*P0.5mm*; Footprint: Package_BGA:BGA-100_6.0x6.0mm_Layout11x11_P0.5mm_Ball0.3mm_Pad0.25mm_NSMD; Supplier: https://www.altera.com/content/dam/altera-www/global/en_US/pdfs/literature/hb/max2/max2_mii5v1.pdf
footprint BGA-100_6.0x6.0mm_Layout11x11_P0.5mm_Ball0.3mm_Pad0.25mm_NSMD
pins: A1 IO2_A1 (io), A2 IO2_A2 (io), A3 IO2_A3 (io), A4 IO2_A4 (io), A5 IO2_A5 (io), A6 IO2_A6 (io), A7 IO2_A7 (io), A8 IO2_A8 (io), A9 IO2_A9 (io), A10 IO2_A10 (io), A11 IO2_A11 (io), B1 IO1_B1 (io), B2 IO2_B2 (io), B3 IO2_B3 (io), B4 IO2_B4 (io), B5 IO2_B5 (io), B6 IO2_B6 (io), B7 IO2_B7 (io), B8 IO2_B8 (io), B9 IO2_B9 (io), B10 IO2_B10 (io), B11 IO2_B11 (io), C1 IO1_C1 (io), C2 IO1_C2 (io), C4 VCCIO2 (power), C5 GNDINT (power), C6 IO2_C6 (io), C7 VCCINT (power), C8 VCCIO2 (power), C10 IO2_C10 (io), C11 IO2_C11 (io), D1 IO1_D1 (io), D2 IO1_D2 (io), D3 IO1_D3 (io), D5 GNDIO (power), D7 GNDIO (power), D9 IO2_D9 (io), D10 IO2_D10 (io), D11 IO2_D11 (io), E1 IO1_E1/GCLK1 (io), E2 IO1_E2 (io), E3 VCCIO1 (power), E4 GNDIO (power), E8 GNDINT (power), E9 VCCINT (power), E10 IO2_E10 (io), E11 IO2_E11 (io), F1 IO1_F1 (io), F2 IO1_F2/GCLK0 (io), F3 IO1_F3 (io), F9 IO2_F9 (io), F10 IO2_F10/GCLK2 (io), F11 IO2_F11 (io), G1 IO1_G1 (io), G2 IO1_G2 (io), G3 VCCINT (power), G4 GNDINT (power), G8 GNDIO (power), G9 VCCIO2 (power), G10 IO2_G10 (io), G11 IO2_G11/GCLK3 (io), H1 IO1_H1 (io), H2 IO1_H2 (io), H3 IO1_H3 (io), H5 GNDIO (power), H7 GNDIO (power), H9 IO2_H9 (io), H10 IO2_H10 (io), H11 IO2_H11 (io), J1 TMS (in), J2 TDI (in), J4 VCCIO1 (power), J5 GNDINT (power), J6 IO1_J6 (io), J7 VCCINT (power), J8 VCCIO1 (power), J10 IO2_J10 (io), J11 IO2_J11 (io), K1 TCK (in), K2 TDO (out), K3 IO1_K3 (io), K4 IO1_K4 (io), K5 IO1_K5 (io), K6 IO1_K6 (io), K7 IO1_K7 (io), K8 IO1_K8/DEV_CLRn (io), K9 IO1_K9 (io), K10 IO1_K10 (io), K11 IO2_K11 (io), L1 IO1_L1 (io), L2 IO1_L2 (io), L3 IO1_L3 (io), L4 IO1_L4 (io), L5 IO1_L5 (io), L6 IO1_L6 (io), L7 IO1_L7 (io), L8 IO1_L8/DEV_OE (io), L9 IO1_L9 (io), L10 IO1_L10 (io), L11 IO1_L11 (io)

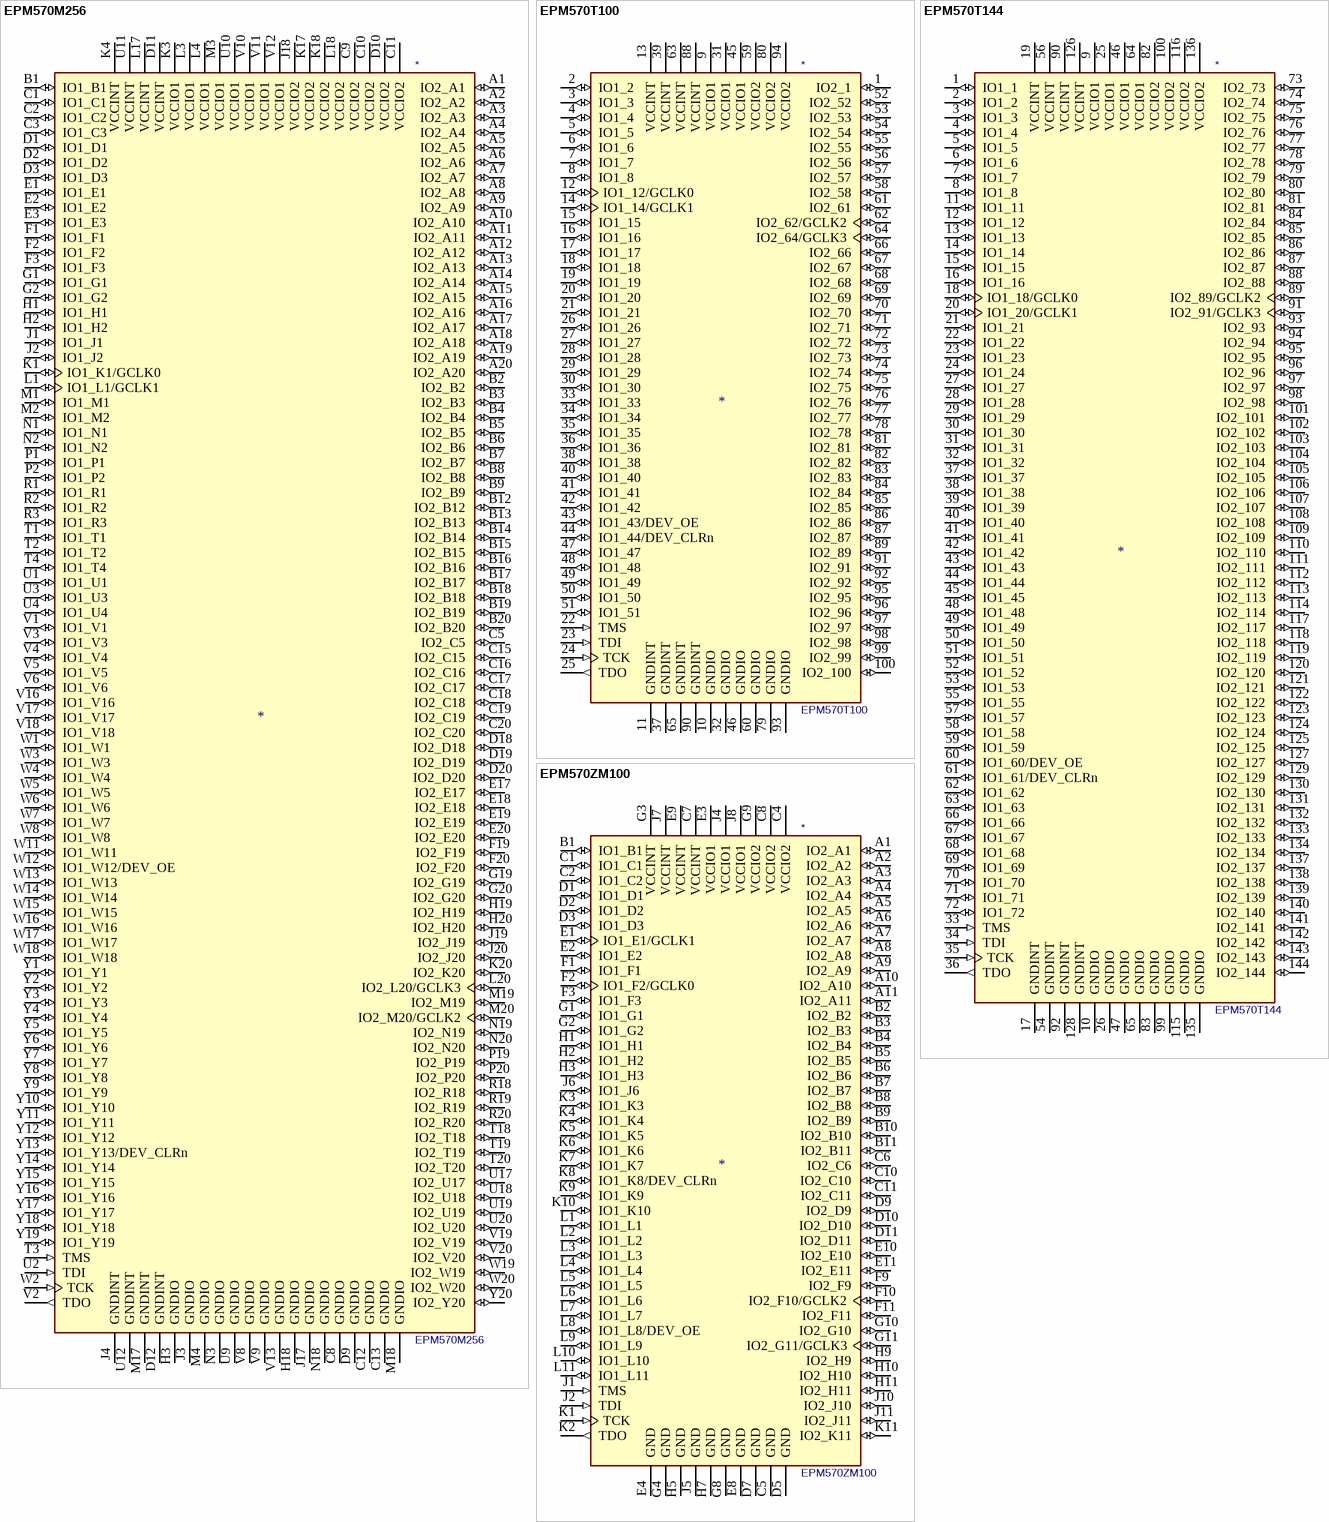
[diagram p2: symbols EPM570M256 to EPM570ZM100]

## EPM570M256
designator *  value EPM570M256
ki_keywords: MAX2 MBGA; ki_description: Altera MAX2 CPLD with 570 LE; ki_fp_filters: *BGA*P0.5mm*; Footprint: Package_BGA:BGA-256_11.0x11.0mm_Layout20x20_P0.5mm_Ball0.3mm_Pad0.25mm_NSMD; Supplier: https://www.altera.com/content/dam/altera-www/global/en_US/pdfs/literature/hb/max2/max2_mii5v1.pdf
footprint BGA-256_11.0x11.0mm_Layout20x20_P0.5mm_Ball0.3mm_Pad0.25mm_NSMD
pins: A1 IO2_A1 (io), A2 IO2_A2 (io), A3 IO2_A3 (io), A4 IO2_A4 (io), A5 IO2_A5 (io), A6 IO2_A6 (io), A7 IO2_A7 (io), A8 IO2_A8 (io), A9 IO2_A9 (io), A10 IO2_A10 (io), A11 IO2_A11 (io), A12 IO2_A12 (io), A13 IO2_A13 (io), A14 IO2_A14 (io), A15 IO2_A15 (io), A16 IO2_A16 (io), A17 IO2_A17 (io), A18 IO2_A18 (io), A19 IO2_A19 (io), A20 IO2_A20 (io), B1 IO1_B1 (io), B2 IO2_B2 (io), B3 IO2_B3 (io), B4 IO2_B4 (io), B5 IO2_B5 (io), B6 IO2_B6 (io), B7 IO2_B7 (io), B8 IO2_B8 (io), B9 IO2_B9 (io), B12 IO2_B12 (io), B13 IO2_B13 (io), B14 IO2_B14 (io), B15 IO2_B15 (io), B16 IO2_B16 (io), B17 IO2_B17 (io), B18 IO2_B18 (io), B19 IO2_B19 (io), B20 IO2_B20 (io), C1 IO1_C1 (io), C2 IO1_C2 (io), C3 IO1_C3 (io), C5 IO2_C5 (io), C8 GNDIO (power), C9 VCCIO2 (power), C10 VCCIO2 (power), C11 VCCIO2 (power), C12 GNDIO (power), C13 GNDIO (power), C15 IO2_C15 (io), C16 IO2_C16 (io), C17 IO2_C17 (io), C18 IO2_C18 (io), C19 IO2_C19 (io), C20 IO2_C20 (io), D1 IO1_D1 (io), D2 IO1_D2 (io), D3 IO1_D3 (io), D9 GNDIO (power), D10 VCCIO2 (power), D11 VCCINT (power), D12 GNDINT (power), D18 IO2_D18 (io), D19 IO2_D19 (io), D20 IO2_D20 (io), E1 IO1_E1 (io), E2 IO1_E2 (io), E3 IO1_E3 (io), E17 IO2_E17 (io), E18 IO2_E18 (io), E19 IO2_E19 (io), E20 IO2_E20 (io), F1 IO1_F1 (io), F2 IO1_F2 (io), F3 IO1_F3 (io), F19 IO2_F19 (io), F20 IO2_F20 (io), G1 IO1_G1 (io), G2 IO1_G2 (io), G19 IO2_G19 (io), G20 IO2_G20 (io), H1 IO1_H1 (io), H2 IO1_H2 (io), H3 GNDIO (power), H18 GNDIO (power), H19 IO2_H19 (io), H20 IO2_H20 (io), J1 IO1_J1 (io), J2 IO1_J2 (io), J3 GNDIO (power), J4 GNDINT (power), J17 GNDIO (power), J18 VCCIO2 (power), J19 IO2_J19 (io), J20 IO2_J20 (io), K1 IO1_K1/GCLK0 (io), K3 VCCIO1 (power), K4 VCCINT (power), K17 VCCIO2 (power), K18 VCCIO2 (power), K20 IO2_K20 (io), L1 IO1_L1/GCLK1 (io), L3 VCCIO1 (power), L4 VCCIO1 (power), L17 VCCINT (power), L18 VCCIO2 (power), L20 IO2_L20/GCLK3 (io), M1 IO1_M1 (io), M2 IO1_M2 (io), M3 VCCIO1 (power), M4 GNDIO (power), M17 GNDINT (power), M18 GNDIO (power), M19 IO2_M19 (io), M20 IO2_M20/GCLK2 (io), N1 IO1_N1 (io), N2 IO1_N2 (io), N3 GNDIO (power), N18 GNDIO (power), N19 IO2_N19 (io), N20 IO2_N20 (io), P1 IO1_P1 (io), P2 IO1_P2 (io), P19 IO2_P19 (io), P20 IO2_P20 (io), R1 IO1_R1 (io), R2 IO1_R2 (io), R3 IO1_R3 (io), R18 IO2_R18 (io), R19 IO2_R19 (io), R20 IO2_R20 (io), T1 IO1_T1 (io), T2 IO1_T2 (io), T3 TMS (in), T4 IO1_T4 (io), T18 IO2_T18 (io), T19 IO2_T19 (io), T20 IO2_T20 (io), U1 IO1_U1 (io), U2 TDI (in), U3 IO1_U3 (io), U4 IO1_U4 (io), U9 GNDIO (power), U10 VCCIO1 (power), U11 VCCINT (power), U12 GNDINT (power), U17 IO2_U17 (io), U18 IO2_U18 (io), U19 IO2_U19 (io), U20 IO2_U20 (io), V1 IO1_V1 (io), V2 TDO (out), V3 IO1_V3 (io), V4 IO1_V4 (io), V5 IO1_V5 (io), V6 IO1_V6 (io), V8 GNDIO (power), V9 GNDIO (power), V10 VCCIO1 (power), V11 VCCIO1 (power), V12 VCCIO1 (power), V13 GNDIO (power), V16 IO1_V16 (io), V17 IO1_V17 (io), V18 IO1_V18 (io), V19 IO2_V19 (io), V20 IO2_V20 (io), W1 IO1_W1 (io), W2 TCK (in), W3 IO1_W3 (io), W4 IO1_W4 (io), W5 IO1_W5 (io), W6 IO1_W6 (io), W7 IO1_W7 (io), W8 IO1_W8 (io), W11 IO1_W11 (io), W12 IO1_W12/DEV_OE (io), W13 IO1_W13 (io), W14 IO1_W14 (io), W15 IO1_W15 (io), W16 IO1_W16 (io), W17 IO1_W17 (io), W18 IO1_W18 (io), W19 IO2_W19 (io), W20 IO2_W20 (io), Y1 IO1_Y1 (io), Y2 IO1_Y2 (io), Y3 IO1_Y3 (io), Y4 IO1_Y4 (io), Y5 IO1_Y5 (io), Y6 IO1_Y6 (io), Y7 IO1_Y7 (io), Y8 IO1_Y8 (io), Y9 IO1_Y9 (io), Y10 IO1_Y10 (io), Y11 IO1_Y11 (io), Y12 IO1_Y12 (io), Y13 IO1_Y13/DEV_CLRn (io), Y14 IO1_Y14 (io), Y15 IO1_Y15 (io), Y16 IO1_Y16 (io), Y17 IO1_Y17 (io), Y18 IO1_Y18 (io), Y19 IO1_Y19 (io), Y20 IO2_Y20 (io)

## EPM570T100
designator *  value EPM570T100
ki_keywords: MAX2 TQFP; ki_description: Altera MAX2 CPLD with 570 LE; ki_fp_filters: *QFP*P0.5mm*; Footprint: Package_QFP:LQFP-100_14x14mm_P0.5mm; Supplier: https://www.altera.com/content/dam/altera-www/global/en_US/pdfs/literature/hb/max2/max2_mii5v1.pdf
footprint LQFP-100_14x14mm_P0.5mm
pins: 1 IO2_1 (io), 2 IO1_2 (io), 3 IO1_3 (io), 4 IO1_4 (io), 5 IO1_5 (io), 6 IO1_6 (io), 7 IO1_7 (io), 8 IO1_8 (io), 9 VCCIO1 (power), 10 GNDIO (power), 11 GNDINT (power), 12 IO1_12/GCLK0 (io), 13 VCCINT (power), 14 IO1_14/GCLK1 (io), 15 IO1_15 (io), 16 IO1_16 (io), 17 IO1_17 (io), 18 IO1_18 (io), 19 IO1_19 (io), 20 IO1_20 (io), 21 IO1_21 (io), 22 TMS (in), 23 TDI (in), 24 TCK (in), 25 TDO (out), 26 IO1_26 (io), 27 IO1_27 (io), 28 IO1_28 (io), 29 IO1_29 (io), 30 IO1_30 (io), 31 VCCIO1 (power), 32 GNDIO (power), 33 IO1_33 (io), 34 IO1_34 (io), 35 IO1_35 (io), 36 IO1_36 (io), 37 GNDINT (power), 38 IO1_38 (io), 39 VCCINT (power), 40 IO1_40 (io), 41 IO1_41 (io), 42 IO1_42 (io), 43 IO1_43/DEV_OE (io), 44 IO1_44/DEV_CLRn (io), 45 VCCIO1 (power), 46 GNDIO (power), 47 IO1_47 (io), 48 IO1_48 (io), 49 IO1_49 (io), 50 IO1_50 (io), 51 IO1_51 (io), 52 IO2_52 (io), 53 IO2_53 (io), 54 IO2_54 (io), 55 IO2_55 (io), 56 IO2_56 (io), 57 IO2_57 (io), 58 IO2_58 (io), 59 VCCIO2 (power), 60 GNDIO (power), 61 IO2_61 (io), 62 IO2_62/GCLK2 (io), 63 VCCINT (power), 64 IO2_64/GCLK3 (io), 65 GNDINT (power), 66 IO2_66 (io), 67 IO2_67 (io), 68 IO2_68 (io), 69 IO2_69 (io), 70 IO2_70 (io), 71 IO2_71 (io), 72 IO2_72 (io), 73 IO2_73 (io), 74 IO2_74 (io), 75 IO2_75 (io), 76 IO2_76 (io), 77 IO2_77 (io), 78 IO2_78 (io), 79 GNDIO (power), 80 VCCIO2 (power), 81 IO2_81 (io), 82 IO2_82 (io), 83 IO2_83 (io), 84 IO2_84 (io), 85 IO2_85 (io), 86 IO2_86 (io), 87 IO2_87 (io), 88 VCCINT (power), 89 IO2_89 (io), 90 GNDINT (power), 91 IO2_91 (io), 92 IO2_92 (io), 93 GNDIO (power), 94 VCCIO2 (power), 95 IO2_95 (io), 96 IO2_96 (io), 97 IO2_97 (io), 98 IO2_98 (io), 99 IO2_99 (io), 100 IO2_100 (io)

## EPM570T144
designator *  value EPM570T144
ki_keywords: MAX2 TQFP; ki_description: Altera MAX2 CPLD with 570 LE; ki_fp_filters: *QFP*P0.5mm*; Footprint: Package_QFP:LQFP-144_20x20mm_P0.5mm; Supplier: https://www.altera.com/content/dam/altera-www/global/en_US/pdfs/literature/hb/max2/max2_mii5v1.pdf
footprint LQFP-144_20x20mm_P0.5mm
pins: 1 IO1_1 (io), 2 IO1_2 (io), 3 IO1_3 (io), 4 IO1_4 (io), 5 IO1_5 (io), 6 IO1_6 (io), 7 IO1_7 (io), 8 IO1_8 (io), 9 VCCIO1 (power), 10 GNDIO (power), 11 IO1_11 (io), 12 IO1_12 (io), 13 IO1_13 (io), 14 IO1_14 (io), 15 IO1_15 (io), 16 IO1_16 (io), 17 GNDINT (power), 18 IO1_18/GCLK0 (io), 19 VCCINT (power), 20 IO1_20/GCLK1 (io), 21 IO1_21 (io), 22 IO1_22 (io), 23 IO1_23 (io), 24 IO1_24 (io), 25 VCCIO1 (power), 26 GNDIO (power), 27 IO1_27 (io), 28 IO1_28 (io), 29 IO1_29 (io), 30 IO1_30 (io), 31 IO1_31 (io), 32 IO1_32 (io), 33 TMS (in), 34 TDI (in), 35 TCK (in), 36 TDO (out), 37 IO1_37 (io), 38 IO1_38 (io), 39 IO1_39 (io), 40 IO1_40 (io), 41 IO1_41 (io), 42 IO1_42 (io), 43 IO1_43 (io), 44 IO1_44 (io), 45 IO1_45 (io), 46 VCCIO1 (power), 47 GNDIO (power), 48 IO1_48 (io), 49 IO1_49 (io), 50 IO1_50 (io), 51 IO1_51 (io), 52 IO1_52 (io), 53 IO1_53 (io), 54 GNDINT (power), 55 IO1_55 (io), 56 VCCINT (power), 57 IO1_57 (io), 58 IO1_58 (io), 59 IO1_59 (io), 60 IO1_60/DEV_OE (io), 61 IO1_61/DEV_CLRn (io), 62 IO1_62 (io), 63 IO1_63 (io), 64 VCCIO1 (power), 65 GNDIO (power), 66 IO1_66 (io), 67 IO1_67 (io), 68 IO1_68 (io), 69 IO1_69 (io), 70 IO1_70 (io), 71 IO1_71 (io), 72 IO1_72 (io), 73 IO2_73 (io), 74 IO2_74 (io), 75 IO2_75 (io), 76 IO2_76 (io), 77 IO2_77 (io), 78 IO2_78 (io), 79 IO2_79 (io), 80 IO2_80 (io), 81 IO2_81 (io), 82 VCCIO2 (power), 83 GNDIO (power), 84 IO2_84 (io), 85 IO2_85 (io), 86 IO2_86 (io), 87 IO2_87 (io), 88 IO2_88 (io), 89 IO2_89/GCLK2 (io), 90 VCCINT (power), 91 IO2_91/GCLK3 (io), 92 GNDINT (power), 93 IO2_93 (io), 94 IO2_94 (io), 95 IO2_95 (io), 96 IO2_96 (io), 97 IO2_97 (io), 98 IO2_98 (io), 99 GNDIO (power), 100 VCCIO2 (power), 101 IO2_101 (io), 102 IO2_102 (io), 103 IO2_103 (io), 104 IO2_104 (io), 105 IO2_105 (io), 106 IO2_106 (io), 107 IO2_107 (io), 108 IO2_108 (io), 109 IO2_109 (io), 110 IO2_110 (io), 111 IO2_111 (io), 112 IO2_112 (io), 113 IO2_113 (io), 114 IO2_114 (io), 115 GNDIO (power), 116 VCCIO2 (power), 117 IO2_117 (io), 118 IO2_118 (io), 119 IO2_119 (io), 120 IO2_120 (io), 121 IO2_121 (io), 122 IO2_122 (io), 123 IO2_123 (io), 124 IO2_124 (io), 125 IO2_125 (io), 126 VCCINT (power), 127 IO2_127 (io), 128 GNDINT (power), 129 IO2_129 (io), 130 IO2_130 (io), 131 IO2_131 (io), 132 IO2_132 (io), 133 IO2_133 (io), 134 IO2_134 (io), 135 GNDIO (power), 136 VCCIO2 (power), 137 IO2_137 (io), 138 IO2_138 (io), 139 IO2_139 (io), 140 IO2_140 (io), 141 IO2_141 (io), 142 IO2_142 (io), 143 IO2_143 (io), 144 IO2_144 (io)

## EPM570ZM100
designator *  value EPM570ZM100
ki_keywords: MAX2 MBGA; ki_description: Altera Zero-Power MAX2 CPLD with 570 LE; ki_fp_filters: *BGA*P0.5mm*; Footprint: Package_BGA:BGA-100_6.0x6.0mm_Layout11x11_P0.5mm_Ball0.3mm_Pad0.25mm_NSMD; Supplier: https://www.altera.com/content/dam/altera-www/global/en_US/pdfs/literature/hb/max2/max2_mii5v1.pdf
footprint BGA-100_6.0x6.0mm_Layout11x11_P0.5mm_Ball0.3mm_Pad0.25mm_NSMD
pins: A1 IO2_A1 (io), A2 IO2_A2 (io), A3 IO2_A3 (io), A4 IO2_A4 (io), A5 IO2_A5 (io), A6 IO2_A6 (io), A7 IO2_A7 (io), A8 IO2_A8 (io), A9 IO2_A9 (io), A10 IO2_A10 (io), A11 IO2_A11 (io), B1 IO1_B1 (io), B2 IO2_B2 (io), B3 IO2_B3 (io), B4 IO2_B4 (io), B5 IO2_B5 (io), B6 IO2_B6 (io), B7 IO2_B7 (io), B8 IO2_B8 (io), B9 IO2_B9 (io), B10 IO2_B10 (io), B11 IO2_B11 (io), C1 IO1_C1 (io), C2 IO1_C2 (io), C4 VCCIO2 (power), C5 GND (power), C6 IO2_C6 (io), C7 VCCINT (power), C8 VCCIO2 (power), C10 IO2_C10 (io), C11 IO2_C11 (io), D1 IO1_D1 (io), D2 IO1_D2 (io), D3 IO1_D3 (io), D5 GND (power), D7 GND (power), D9 IO2_D9 (io), D10 IO2_D10 (io), D11 IO2_D11 (io), E1 IO1_E1/GCLK1 (io), E2 IO1_E2 (io), E3 VCCIO1 (power), E4 GND (power), E8 GND (power), E9 VCCINT (power), E10 IO2_E10 (io), E11 IO2_E11 (io), F1 IO1_F1 (io), F2 IO1_F2/GCLK0 (io), F3 IO1_F3 (io), F9 IO2_F9 (io), F10 IO2_F10/GCLK2 (io), F11 IO2_F11 (io), G1 IO1_G1 (io), G2 IO1_G2 (io), G3 VCCINT (power), G4 GND (power), G8 GND (power), G9 VCCIO2 (power), G10 IO2_G10 (io), G11 IO2_G11/GCLK3 (io), H1 IO1_H1 (io), H2 IO1_H2 (io), H3 IO1_H3 (io), H5 GND (power), H7 GND (power), H9 IO2_H9 (io), H10 IO2_H10 (io), H11 IO2_H11 (io), J1 TMS (in), J2 TDI (in), J4 VCCIO1 (power), J5 GND (power), J6 IO1_J6 (io), J7 VCCINT (power), J8 VCCIO1 (power), J10 IO2_J10 (io), J11 IO2_J11 (io), K1 TCK (in), K2 TDO (out), K3 IO1_K3 (io), K4 IO1_K4 (io), K5 IO1_K5 (io), K6 IO1_K6 (io), K7 IO1_K7 (io), K8 IO1_K8/DEV_CLRn (io), K9 IO1_K9 (io), K10 IO1_K10 (io), K11 IO2_K11 (io), L1 IO1_L1 (io), L2 IO1_L2 (io), L3 IO1_L3 (io), L4 IO1_L4 (io), L5 IO1_L5 (io), L6 IO1_L6 (io), L7 IO1_L7 (io), L8 IO1_L8/DEV_OE (io), L9 IO1_L9 (io), L10 IO1_L10 (io), L11 IO1_L11 (io)

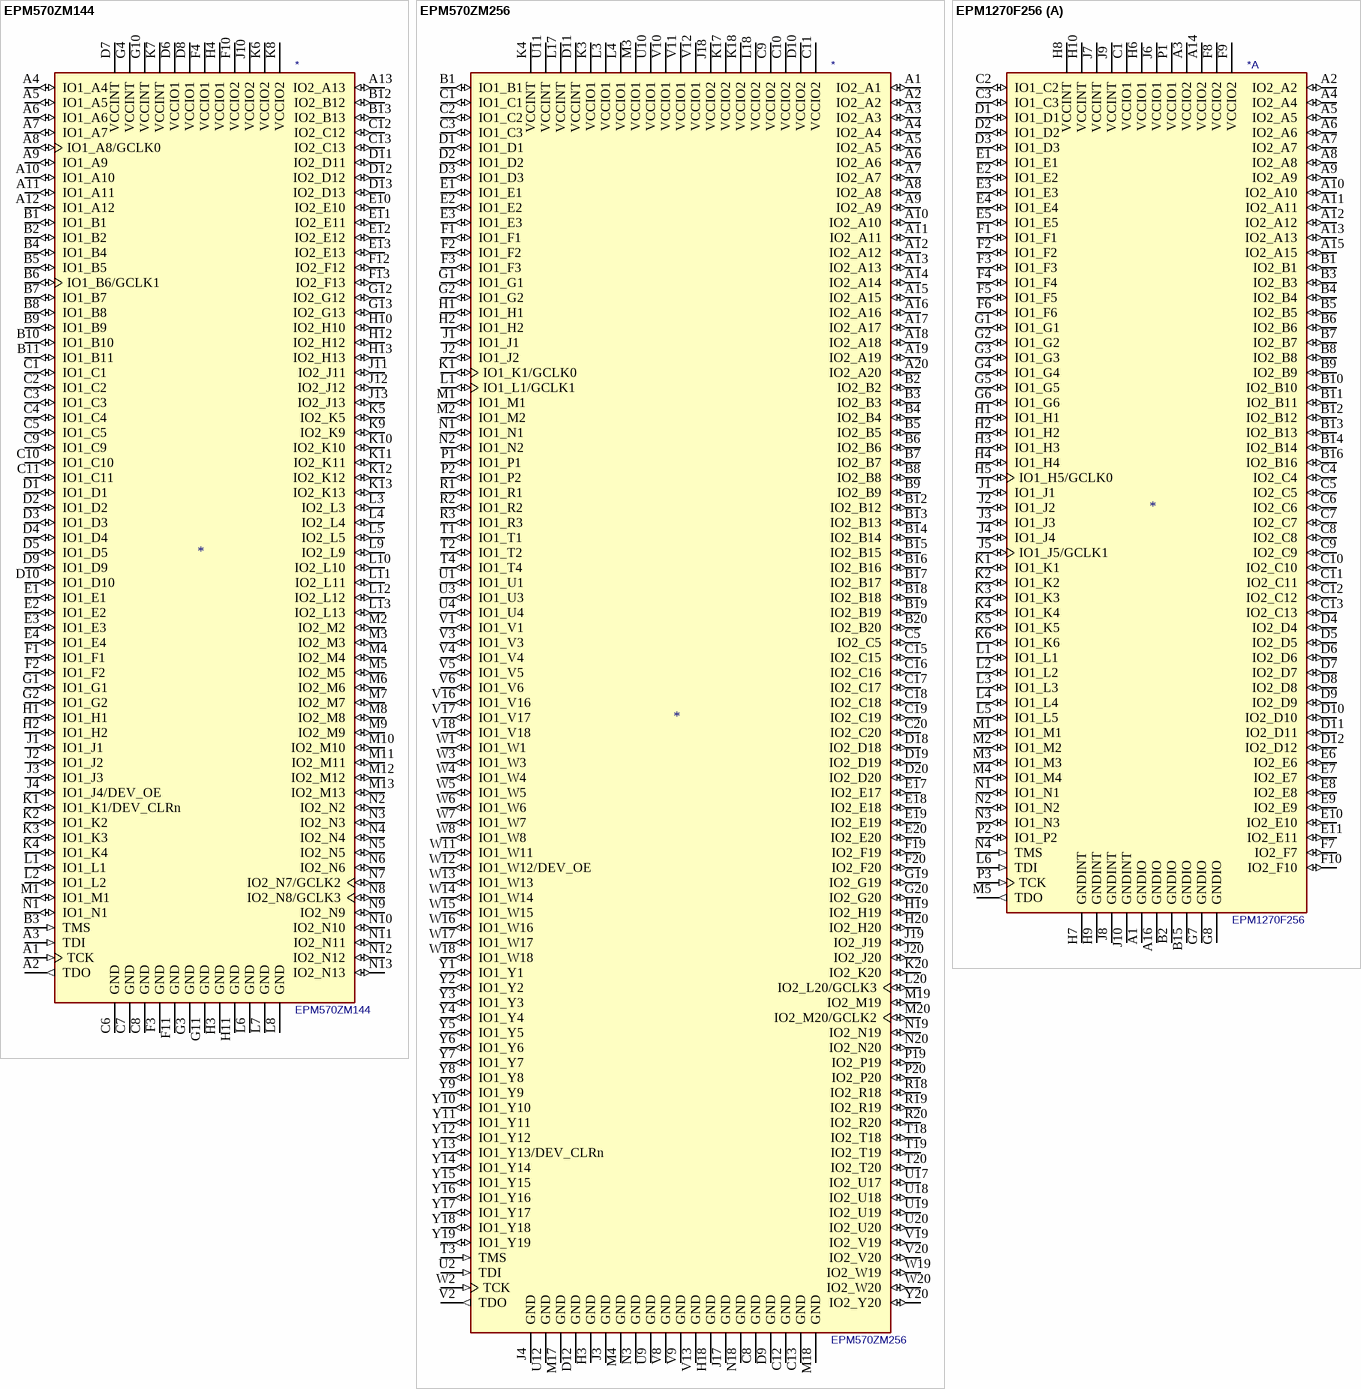
[diagram p3: symbols EPM570ZM144 to EPM1270F256]

## EPM570ZM144
designator *  value EPM570ZM144
ki_keywords: MAX2 MBGA; ki_description: Altera Zero-Power MAX2 CPLD with 570 LE; ki_fp_filters: *BGA*P0.5mm*; Footprint: Package_BGA:BGA-144_7.0x7.0mm_Layout13x13_P0.5mm_Ball0.3mm_Pad0.25mm_NSMD; Supplier: https://www.altera.com/content/dam/altera-www/global/en_US/pdfs/literature/hb/max2/max2_mii5v1.pdf
footprint BGA-144_7.0x7.0mm_Layout13x13_P0.5mm_Ball0.3mm_Pad0.25mm_NSMD
pins: A1 TCK (in), A2 TDO (out), A3 TDI (in), A4 IO1_A4 (io), A5 IO1_A5 (io), A6 IO1_A6 (io), A7 IO1_A7 (io), A8 IO1_A8/GCLK0 (io), A9 IO1_A9 (io), A10 IO1_A10 (io), A11 IO1_A11 (io), A12 IO1_A12 (io), A13 IO2_A13 (io), B1 IO1_B1 (io), B2 IO1_B2 (io), B3 TMS (in), B4 IO1_B4 (io), B5 IO1_B5 (io), B6 IO1_B6/GCLK1 (io), B7 IO1_B7 (io), B8 IO1_B8 (io), B9 IO1_B9 (io), B10 IO1_B10 (io), B11 IO1_B11 (io), B12 IO2_B12 (io), B13 IO2_B13 (io), C1 IO1_C1 (io), C2 IO1_C2 (io), C3 IO1_C3 (io), C4 IO1_C4 (io), C5 IO1_C5 (io), C6 GND (power), C7 GND (power), C8 GND (power), C9 IO1_C9 (io), C10 IO1_C10 (io), C11 IO1_C11 (io), C12 IO2_C12 (io), C13 IO2_C13 (io), D1 IO1_D1 (io), D2 IO1_D2 (io), D3 IO1_D3 (io), D4 IO1_D4 (io), D5 IO1_D5 (io), D6 VCCIO1 (power), D7 VCCINT (power), D8 VCCIO1 (power), D9 IO1_D9 (io), D10 IO1_D10 (io), D11 IO2_D11 (io), D12 IO2_D12 (io), D13 IO2_D13 (io), E1 IO1_E1 (io), E2 IO1_E2 (io), E3 IO1_E3 (io), E4 IO1_E4 (io), E10 IO2_E10 (io), E11 IO2_E11 (io), E12 IO2_E12 (io), E13 IO2_E13 (io), F1 IO1_F1 (io), F2 IO1_F2 (io), F3 GND (power), F4 VCCIO1 (power), F10 VCCIO2 (power), F11 GND (power), F12 IO2_F12 (io), F13 IO2_F13 (io), G1 IO1_G1 (io), G2 IO1_G2 (io), G3 GND (power), G4 VCCINT (power), G10 VCCINT (power), G11 GND (power), G12 IO2_G12 (io), G13 IO2_G13 (io), H1 IO1_H1 (io), H2 IO1_H2 (io), H3 GND (power), H4 VCCIO1 (power), H10 IO2_H10 (io), H11 GND (power), H12 IO2_H12 (io), H13 IO2_H13 (io), J1 IO1_J1 (io), J2 IO1_J2 (io), J3 IO1_J3 (io), J4 IO1_J4/DEV_OE (io), J10 VCCIO2 (power), J11 IO2_J11 (io), J12 IO2_J12 (io), J13 IO2_J13 (io), K1 IO1_K1/DEV_CLRn (io), K2 IO1_K2 (io), K3 IO1_K3 (io), K4 IO1_K4 (io), K5 IO2_K5 (io), K6 VCCIO2 (power), K7 VCCINT (power), K8 VCCIO2 (power), K9 IO2_K9 (io), K10 IO2_K10 (io), K11 IO2_K11 (io), K12 IO2_K12 (io), K13 IO2_K13 (io), L1 IO1_L1 (io), L2 IO1_L2 (io), L3 IO2_L3 (io), L4 IO2_L4 (io), L5 IO2_L5 (io), L6 GND (power), L7 GND (power), L8 GND (power), L9 IO2_L9 (io), L10 IO2_L10 (io), L11 IO2_L11 (io), L12 IO2_L12 (io), L13 IO2_L13 (io), M1 IO1_M1 (io), M2 IO2_M2 (io), M3 IO2_M3 (io), M4 IO2_M4 (io), M5 IO2_M5 (io), M6 IO2_M6 (io), M7 IO2_M7 (io), M8 IO2_M8 (io), M9 IO2_M9 (io), M10 IO2_M10 (io), M11 IO2_M11 (io), M12 IO2_M12 (io), M13 IO2_M13 (io), N1 IO1_N1 (io), N2 IO2_N2 (io), N3 IO2_N3 (io), N4 IO2_N4 (io), N5 IO2_N5 (io), N6 IO2_N6 (io), N7 IO2_N7/GCLK2 (io), N8 IO2_N8/GCLK3 (io), N9 IO2_N9 (io), N10 IO2_N10 (io), N11 IO2_N11 (io), N12 IO2_N12 (io), N13 IO2_N13 (io)

## EPM570ZM256
designator *  value EPM570ZM256
ki_keywords: MAX2 MBGA; ki_description: Altera Zero-Power MAX2 CPLD with 570 LE; ki_fp_filters: *BGA*P0.5mm*; Footprint: Package_BGA:BGA-256_11.0x11.0mm_Layout20x20_P0.5mm_Ball0.3mm_Pad0.25mm_NSMD; Supplier: https://www.altera.com/content/dam/altera-www/global/en_US/pdfs/literature/hb/max2/max2_mii5v1.pdf
footprint BGA-256_11.0x11.0mm_Layout20x20_P0.5mm_Ball0.3mm_Pad0.25mm_NSMD
pins: A1 IO2_A1 (io), A2 IO2_A2 (io), A3 IO2_A3 (io), A4 IO2_A4 (io), A5 IO2_A5 (io), A6 IO2_A6 (io), A7 IO2_A7 (io), A8 IO2_A8 (io), A9 IO2_A9 (io), A10 IO2_A10 (io), A11 IO2_A11 (io), A12 IO2_A12 (io), A13 IO2_A13 (io), A14 IO2_A14 (io), A15 IO2_A15 (io), A16 IO2_A16 (io), A17 IO2_A17 (io), A18 IO2_A18 (io), A19 IO2_A19 (io), A20 IO2_A20 (io), B1 IO1_B1 (io), B2 IO2_B2 (io), B3 IO2_B3 (io), B4 IO2_B4 (io), B5 IO2_B5 (io), B6 IO2_B6 (io), B7 IO2_B7 (io), B8 IO2_B8 (io), B9 IO2_B9 (io), B12 IO2_B12 (io), B13 IO2_B13 (io), B14 IO2_B14 (io), B15 IO2_B15 (io), B16 IO2_B16 (io), B17 IO2_B17 (io), B18 IO2_B18 (io), B19 IO2_B19 (io), B20 IO2_B20 (io), C1 IO1_C1 (io), C2 IO1_C2 (io), C3 IO1_C3 (io), C5 IO2_C5 (io), C8 GND (power), C9 VCCIO2 (power), C10 VCCIO2 (power), C11 VCCIO2 (power), C12 GND (power), C13 GND (power), C15 IO2_C15 (io), C16 IO2_C16 (io), C17 IO2_C17 (io), C18 IO2_C18 (io), C19 IO2_C19 (io), C20 IO2_C20 (io), D1 IO1_D1 (io), D2 IO1_D2 (io), D3 IO1_D3 (io), D9 GND (power), D10 VCCIO2 (power), D11 VCCINT (power), D12 GND (power), D18 IO2_D18 (io), D19 IO2_D19 (io), D20 IO2_D20 (io), E1 IO1_E1 (io), E2 IO1_E2 (io), E3 IO1_E3 (io), E17 IO2_E17 (io), E18 IO2_E18 (io), E19 IO2_E19 (io), E20 IO2_E20 (io), F1 IO1_F1 (io), F2 IO1_F2 (io), F3 IO1_F3 (io), F19 IO2_F19 (io), F20 IO2_F20 (io), G1 IO1_G1 (io), G2 IO1_G2 (io), G19 IO2_G19 (io), G20 IO2_G20 (io), H1 IO1_H1 (io), H2 IO1_H2 (io), H3 GND (power), H18 GND (power), H19 IO2_H19 (io), H20 IO2_H20 (io), J1 IO1_J1 (io), J2 IO1_J2 (io), J3 GND (power), J4 GND (power), J17 GND (power), J18 VCCIO2 (power), J19 IO2_J19 (io), J20 IO2_J20 (io), K1 IO1_K1/GCLK0 (io), K3 VCCIO1 (power), K4 VCCINT (power), K17 VCCIO2 (power), K18 VCCIO2 (power), K20 IO2_K20 (io), L1 IO1_L1/GCLK1 (io), L3 VCCIO1 (power), L4 VCCIO1 (power), L17 VCCINT (power), L18 VCCIO2 (power), L20 IO2_L20/GCLK3 (io), M1 IO1_M1 (io), M2 IO1_M2 (io), M3 VCCIO1 (power), M4 GND (power), M17 GND (power), M18 GND (power), M19 IO2_M19 (io), M20 IO2_M20/GCLK2 (io), N1 IO1_N1 (io), N2 IO1_N2 (io), N3 GND (power), N18 GND (power), N19 IO2_N19 (io), N20 IO2_N20 (io), P1 IO1_P1 (io), P2 IO1_P2 (io), P19 IO2_P19 (io), P20 IO2_P20 (io), R1 IO1_R1 (io), R2 IO1_R2 (io), R3 IO1_R3 (io), R18 IO2_R18 (io), R19 IO2_R19 (io), R20 IO2_R20 (io), T1 IO1_T1 (io), T2 IO1_T2 (io), T3 TMS (in), T4 IO1_T4 (io), T18 IO2_T18 (io), T19 IO2_T19 (io), T20 IO2_T20 (io), U1 IO1_U1 (io), U2 TDI (in), U3 IO1_U3 (io), U4 IO1_U4 (io), U9 GND (power), U10 VCCIO1 (power), U11 VCCINT (power), U12 GND (power), U17 IO2_U17 (io), U18 IO2_U18 (io), U19 IO2_U19 (io), U20 IO2_U20 (io), V1 IO1_V1 (io), V2 TDO (out), V3 IO1_V3 (io), V4 IO1_V4 (io), V5 IO1_V5 (io), V6 IO1_V6 (io), V8 GND (power), V9 GND (power), V10 VCCIO1 (power), V11 VCCIO1 (power), V12 VCCIO1 (power), V13 GND (power), V16 IO1_V16 (io), V17 IO1_V17 (io), V18 IO1_V18 (io), V19 IO2_V19 (io), V20 IO2_V20 (io), W1 IO1_W1 (io), W2 TCK (in), W3 IO1_W3 (io), W4 IO1_W4 (io), W5 IO1_W5 (io), W6 IO1_W6 (io), W7 IO1_W7 (io), W8 IO1_W8 (io), W11 IO1_W11 (io), W12 IO1_W12/DEV_OE (io), W13 IO1_W13 (io), W14 IO1_W14 (io), W15 IO1_W15 (io), W16 IO1_W16 (io), W17 IO1_W17 (io), W18 IO1_W18 (io), W19 IO2_W19 (io), W20 IO2_W20 (io), Y1 IO1_Y1 (io), Y2 IO1_Y2 (io), Y3 IO1_Y3 (io), Y4 IO1_Y4 (io), Y5 IO1_Y5 (io), Y6 IO1_Y6 (io), Y7 IO1_Y7 (io), Y8 IO1_Y8 (io), Y9 IO1_Y9 (io), Y10 IO1_Y10 (io), Y11 IO1_Y11 (io), Y12 IO1_Y12 (io), Y13 IO1_Y13/DEV_CLRn (io), Y14 IO1_Y14 (io), Y15 IO1_Y15 (io), Y16 IO1_Y16 (io), Y17 IO1_Y17 (io), Y18 IO1_Y18 (io), Y19 IO1_Y19 (io), Y20 IO2_Y20 (io)

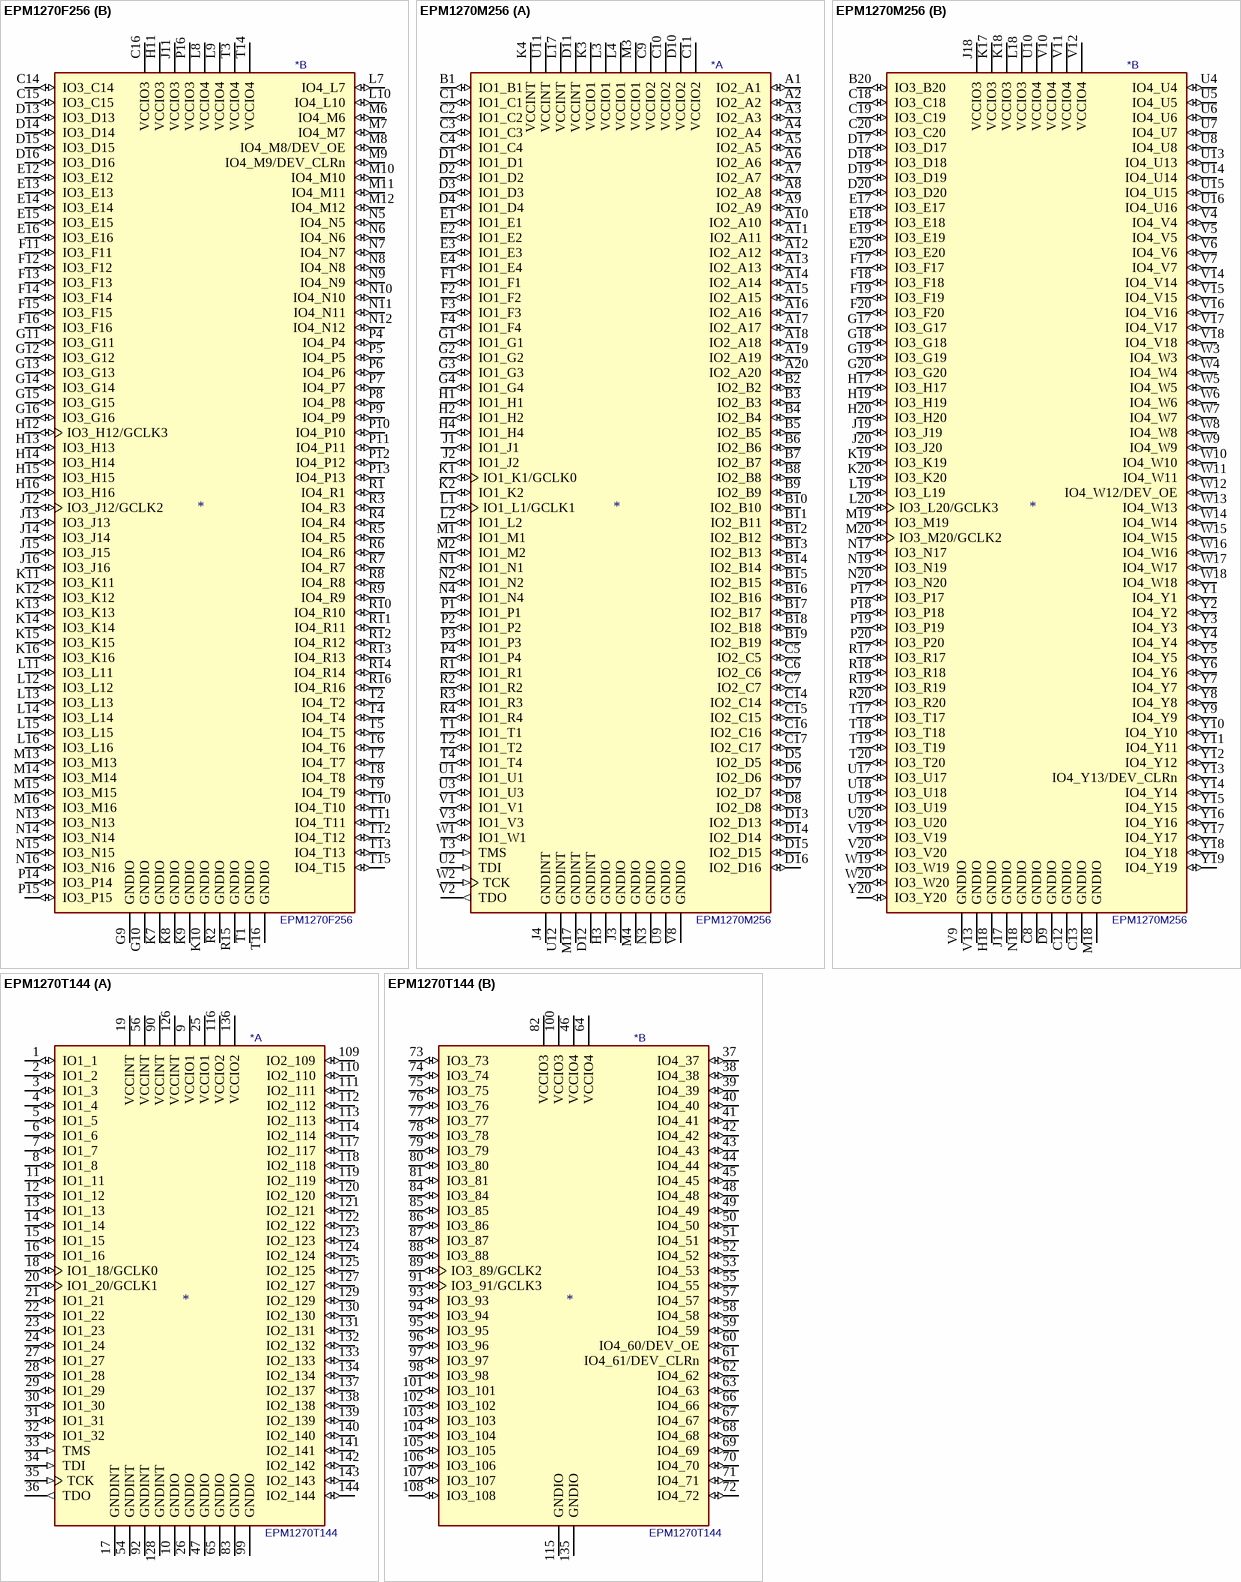
[diagram p4: symbols EPM1270F256 to EPM1270T144]

## EPM1270F256
designator *  value EPM1270F256
ki_keywords: MAX2 FBGA; ki_description: Altera MAX2 CPLD with 1270 LE; ki_fp_filters: *BGA*P1.0mm*; Footprint: Package_BGA:BGA-256_17.0x17.0mm_Layout16x16_P1.0mm_Ball0.5mm_Pad0.4mm_NSMD; Supplier: https://www.altera.com/content/dam/altera-www/global/en_US/pdfs/literature/hb/max2/max2_mii5v1.pdf
footprint BGA-256_17.0x17.0mm_Layout16x16_P1.0mm_Ball0.5mm_Pad0.4mm_NSMD
part A pins: A1 GNDIO (power), A2 IO2_A2 (io), A3 VCCIO2 (power), A4 IO2_A4 (io), A5 IO2_A5 (io), A6 IO2_A6 (io), A7 IO2_A7 (io), A8 IO2_A8 (io), A9 IO2_A9 (io), A10 IO2_A10 (io), A11 IO2_A11 (io), A12 IO2_A12 (io), A13 IO2_A13 (io), A14 VCCIO2 (power), A15 IO2_A15 (io), A16 GNDIO (power), B1 IO2_B1 (io), B2 GNDIO (power), B3 IO2_B3 (io), B4 IO2_B4 (io), B5 IO2_B5 (io), B6 IO2_B6 (io), B7 IO2_B7 (io), B8 IO2_B8 (io), B9 IO2_B9 (io), B10 IO2_B10 (io), B11 IO2_B11 (io), B12 IO2_B12 (io), B13 IO2_B13 (io), B14 IO2_B14 (io), B15 GNDIO (power), B16 IO2_B16 (io), C1 VCCIO1 (power), C2 IO1_C2 (io), C3 IO1_C3 (io), C4 IO2_C4 (io), C5 IO2_C5 (io), C6 IO2_C6 (io), C7 IO2_C7 (io), C8 IO2_C8 (io), C9 IO2_C9 (io), C10 IO2_C10 (io), C11 IO2_C11 (io), C12 IO2_C12 (io), C13 IO2_C13 (io), D1 IO1_D1 (io), D2 IO1_D2 (io), D3 IO1_D3 (io), D4 IO2_D4 (io), D5 IO2_D5 (io), D6 IO2_D6 (io), D7 IO2_D7 (io), D8 IO2_D8 (io), D9 IO2_D9 (io), D10 IO2_D10 (io), D11 IO2_D11 (io), D12 IO2_D12 (io), E1 IO1_E1 (io), E2 IO1_E2 (io), E3 IO1_E3 (io), E4 IO1_E4 (io), E5 IO1_E5 (io), E6 IO2_E6 (io), E7 IO2_E7 (io), E8 IO2_E8 (io), E9 IO2_E9 (io), E10 IO2_E10 (io), E11 IO2_E11 (io), F1 IO1_F1 (io), F2 IO1_F2 (io), F3 IO1_F3 (io), F4 IO1_F4 (io), F5 IO1_F5 (io), F6 IO1_F6 (io), F7 IO2_F7 (io), F8 VCCIO2 (power), F9 VCCIO2 (power), F10 IO2_F10 (io), G1 IO1_G1 (io), G2 IO1_G2 (io), G3 IO1_G3 (io), G4 IO1_G4 (io), G5 IO1_G5 (io), G6 IO1_G6 (io), G7 GNDIO (power), G8 GNDIO (power), H1 IO1_H1 (io), H2 IO1_H2 (io), H3 IO1_H3 (io), H4 IO1_H4 (io), H5 IO1_H5/GCLK0 (io), H6 VCCIO1 (power), H7 GNDINT (power), H8 VCCINT (power), H9 GNDINT (power), H10 VCCINT (power), J1 IO1_J1 (io), J2 IO1_J2 (io), J3 IO1_J3 (io), J4 IO1_J4 (io), J5 IO1_J5/GCLK1 (io), J6 VCCIO1 (power), J7 VCCINT (power), J8 GNDINT (power), J9 VCCINT (power), J10 GNDINT (power), K1 IO1_K1 (io), K2 IO1_K2 (io), K3 IO1_K3 (io), K4 IO1_K4 (io), K5 IO1_K5 (io), K6 IO1_K6 (io), L1 IO1_L1 (io), L2 IO1_L2 (io), L3 IO1_L3 (io), L4 IO1_L4 (io), L5 IO1_L5 (io), L6 TDI (in), M1 IO1_M1 (io), M2 IO1_M2 (io), M3 IO1_M3 (io), M4 IO1_M4 (io), M5 TDO (out), N1 IO1_N1 (io), N2 IO1_N2 (io), N3 IO1_N3 (io), N4 TMS (in), P1 VCCIO1 (power), P2 IO1_P2 (io), P3 TCK (in)
part B pins: C14 IO3_C14 (io), C15 IO3_C15 (io), C16 VCCIO3 (power), D13 IO3_D13 (io), D14 IO3_D14 (io), D15 IO3_D15 (io), D16 IO3_D16 (io), E12 IO3_E12 (io), E13 IO3_E13 (io), E14 IO3_E14 (io), E15 IO3_E15 (io), E16 IO3_E16 (io), F11 IO3_F11 (io), F12 IO3_F12 (io), F13 IO3_F13 (io), F14 IO3_F14 (io), F15 IO3_F15 (io), F16 IO3_F16 (io), G9 GNDIO (power), G10 GNDIO (power), G11 IO3_G11 (io), G12 IO3_G12 (io), G13 IO3_G13 (io), G14 IO3_G14 (io), G15 IO3_G15 (io), G16 IO3_G16 (io), H11 VCCIO3 (power), H12 IO3_H12/GCLK3 (io), H13 IO3_H13 (io), H14 IO3_H14 (io), H15 IO3_H15 (io), H16 IO3_H16 (io), J11 VCCIO3 (power), J12 IO3_J12/GCLK2 (io), J13 IO3_J13 (io), J14 IO3_J14 (io), J15 IO3_J15 (io), J16 IO3_J16 (io), K7 GNDIO (power), K8 GNDIO (power), K9 GNDIO (power), K10 GNDIO (power), K11 IO3_K11 (io), K12 IO3_K12 (io), K13 IO3_K13 (io), K14 IO3_K14 (io), K15 IO3_K15 (io), K16 IO3_K16 (io), L7 IO4_L7 (io), L8 VCCIO4 (power), L9 VCCIO4 (power), L10 IO4_L10 (io), L11 IO3_L11 (io), L12 IO3_L12 (io), L13 IO3_L13 (io), L14 IO3_L14 (io), L15 IO3_L15 (io), L16 IO3_L16 (io), M6 IO4_M6 (io), M7 IO4_M7 (io), M8 IO4_M8/DEV_OE (io), M9 IO4_M9/DEV_CLRn (io), M10 IO4_M10 (io), M11 IO4_M11 (io), M12 IO4_M12 (io), M13 IO3_M13 (io), M14 IO3_M14 (io), M15 IO3_M15 (io), M16 IO3_M16 (io), N5 IO4_N5 (io), N6 IO4_N6 (io), N7 IO4_N7 (io), N8 IO4_N8 (io), N9 IO4_N9 (io), N10 IO4_N10 (io), N11 IO4_N11 (io), N12 IO4_N12 (io), N13 IO3_N13 (io), N14 IO3_N14 (io), N15 IO3_N15 (io), N16 IO3_N16 (io), P4 IO4_P4 (io), P5 IO4_P5 (io), P6 IO4_P6 (io), P7 IO4_P7 (io), P8 IO4_P8 (io), P9 IO4_P9 (io), P10 IO4_P10 (io), P11 IO4_P11 (io), P12 IO4_P12 (io), P13 IO4_P13 (io), P14 IO3_P14 (io), P15 IO3_P15 (io), P16 VCCIO3 (power), R1 IO4_R1 (io), R2 GNDIO (power), R3 IO4_R3 (io), R4 IO4_R4 (io), R5 IO4_R5 (io), R6 IO4_R6 (io), R7 IO4_R7 (io), R8 IO4_R8 (io), R9 IO4_R9 (io), R10 IO4_R10 (io), R11 IO4_R11 (io), R12 IO4_R12 (io), R13 IO4_R13 (io), R14 IO4_R14 (io), R15 GNDIO (power), R16 IO4_R16 (io), T1 GNDIO (power), T2 IO4_T2 (io), T3 VCCIO4 (power), T4 IO4_T4 (io), T5 IO4_T5 (io), T6 IO4_T6 (io), T7 IO4_T7 (io), T8 IO4_T8 (io), T9 IO4_T9 (io), T10 IO4_T10 (io), T11 IO4_T11 (io), T12 IO4_T12 (io), T13 IO4_T13 (io), T14 VCCIO4 (power), T15 IO4_T15 (io), T16 GNDIO (power)